# Altium integrated library Altera APEX 20KE.IntLib: 235 symbols (part 4 of 49)
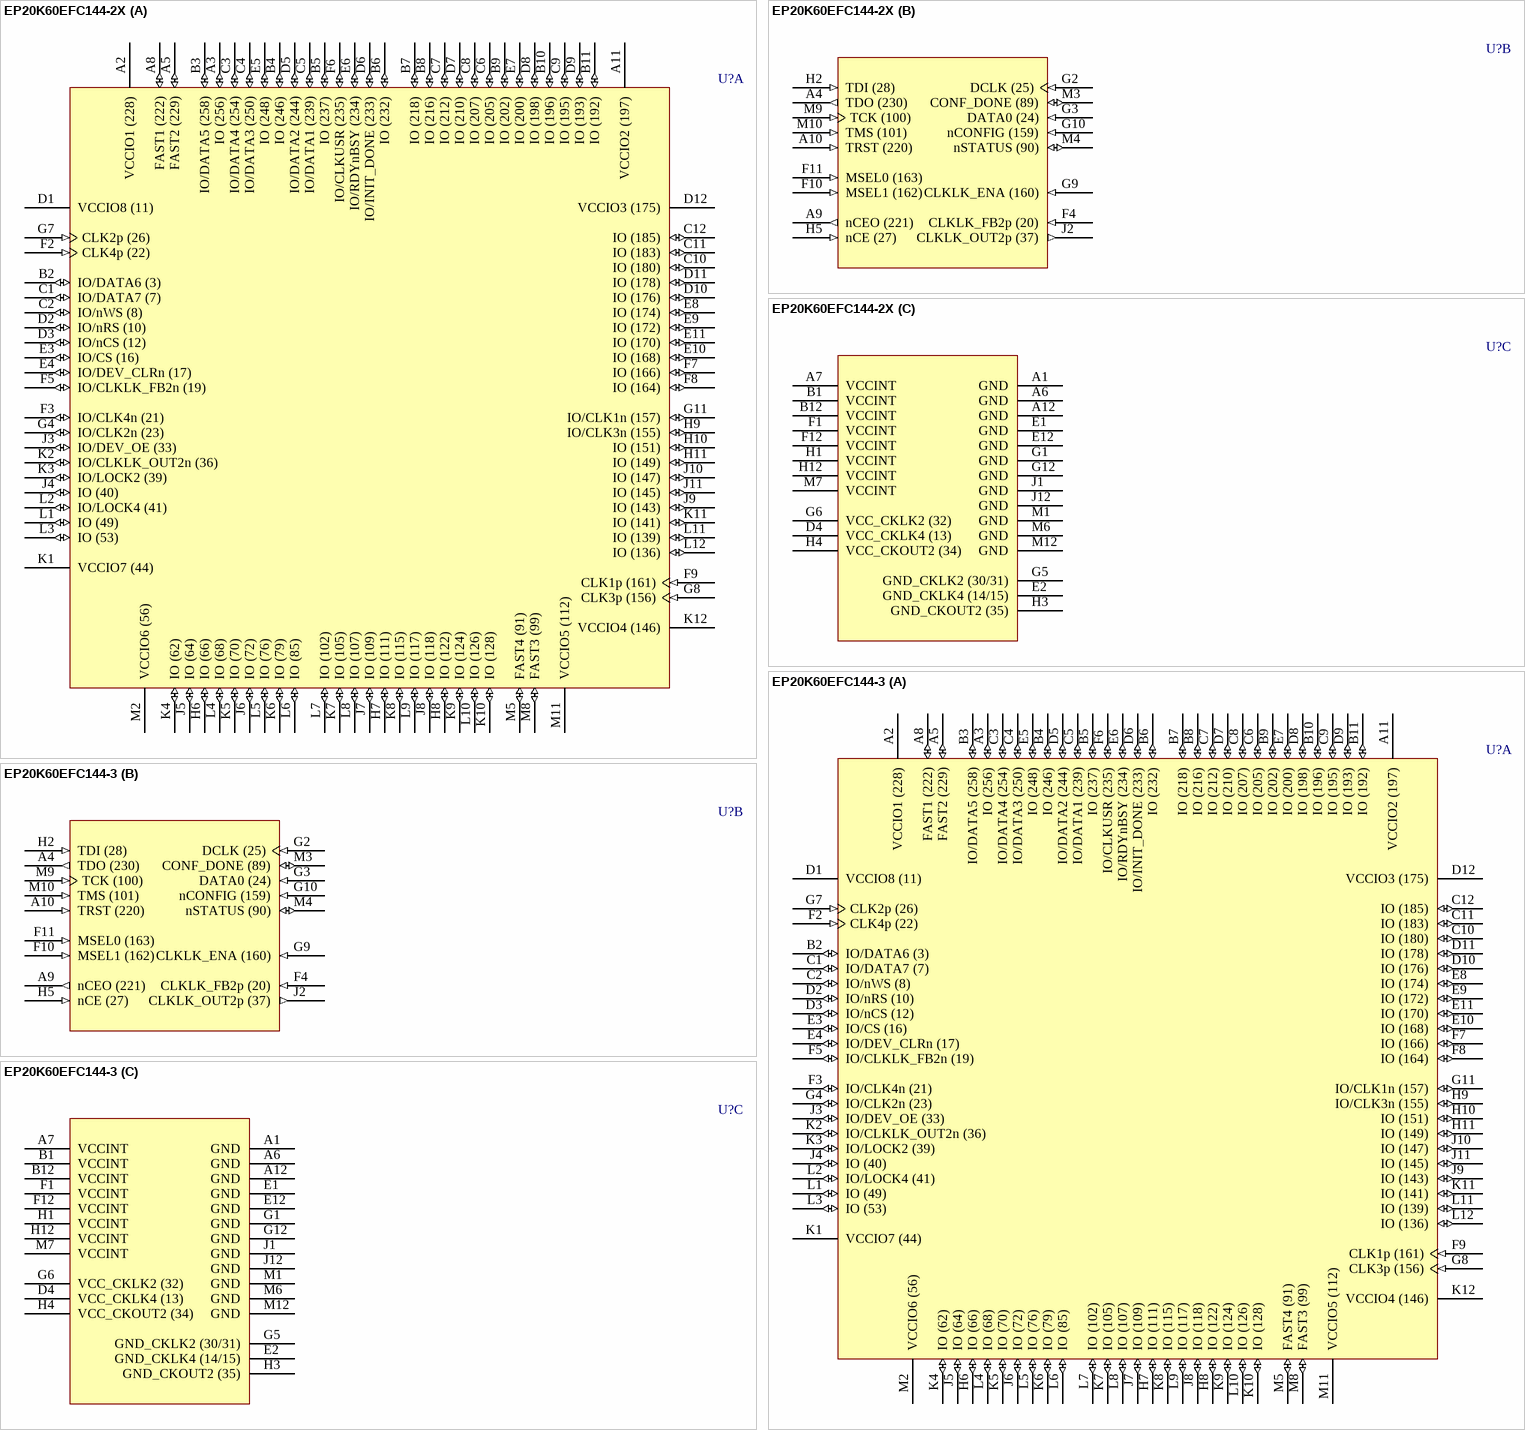
[diagram p402: symbols EP20K60EFC144-2X to EP20K60EFC144-3]

## EP20K60EFC144-2X
designator U?
APEX 20K60E PLD with PLLs and LVDS, 144-Pin FBGA, Commercial Grade, Speed Grade 2; Published: 17-Jul-2002; LatestRevisionDate: 13-Apr-2006; LatestRevisionNote: IPC-7351 Footprint Added.; DatasheetVersion: Mar-2004; PackageVersion: ver15.1, May-2008; PackageReference: FBGA144; Publisher: Altium Limited; PackageDescription: 144-Ball FineLine Ball Grid Array (FBGA144) - Wire Bond; Code_JEDEC: MO-192-AAD-1; Code_IPC: BGA100P12X12-144; ComponentLink1Description: Manufacturer Link; ComponentLink1URL: http://www.altera.com/products/devices/apex/apx-index.html; ComponentLink2Description: Datasheet; ComponentLink2URL: http://www.altera.com/literature/ds/apex.pdf
footprint FBGA144 (BGA, 144-Leads, Body 13x13mm, Pitch 1mm)
3D model EP20K60E-FBGA144 (144-Ball FineLine Ball Grid Array (FBGA144) - Wire Bond)
part A pins: A2 VCCIO1 (228) (power), A3 IO (256) (io), A5 FAST2 (229) (io), A8 FAST1 (222) (io), A11 VCCIO2 (197) (power), B2 IO/DATA6 (3) (io), B3 IO/DATA5 (258) (io), B4 IO (246) (io), B5 IO (237) (io), B6 IO (232) (io), B7 IO (218) (io), B8 IO (216) (io), B9 IO (202) (io), B10 IO (196) (io), B11 IO (192) (io), C1 IO/DATA7 (7) (io), C2 IO/nWS (8) (io), C3 IO/DATA4 (254) (io), C4 IO/DATA3 (250) (io), C5 IO/DATA1 (239) (io), C6 IO (205) (io), C7 IO (212) (io), C8 IO (207) (io), C9 IO (195) (io), C10 IO (180) (io), C11 IO (183) (io), C12 IO (185) (io), D1 VCCIO8 (11) (power), D2 IO/nRS (10) (io), D3 IO/nCS (12) (io), D5 IO/DATA2 (244) (io), D6 IO/INIT_DONE (233) (io), D7 IO (210) (io), D8 IO (198) (io), D9 IO (193) (io), D10 IO (176) (io), D11 IO (178) (io), D12 VCCIO3 (175) (power), E3 IO/CS (16) (io), E4 IO/DEV_CLRn (17) (io), E5 IO (248) (io), E6 IO/RDYnBSY (234) (io), E7 IO (200) (io), E8 IO (174) (io), E9 IO (172) (io), E10 IO (168) (io), E11 IO (170) (io), F2 CLK4p (22) (in), F3 IO/CLK4n (21) (io), F5 IO/CLKLK_FB2n (19) (io), F6 IO/CLKUSR (235) (io), F7 IO (166) (io), F8 IO (164) (io), F9 CLK1p (161) (in), G4 IO/CLK2n (23) (io), G7 CLK2p (26) (in), G8 CLK3p (156) (in), G11 IO/CLK1n (157) (io), H6 IO (66) (io), H7 IO (111) (io), H8 IO (122) (io), H9 IO/CLK3n (155) (io), H10 IO (151) (io), H11 IO (149) (io), J3 IO/DEV_OE (33) (io), J4 IO (40) (io), J5 IO (64) (io), J6 IO (72) (io), J7 IO (109) (io), J8 IO (118) (io), J9 IO (143) (io), J10 IO (147) (io), J11 IO (145) (io), K1 VCCIO7 (44) (power), K2 IO/CLKLK_OUT2n (36) (io), K3 IO/LOCK2 (39) (io), K4 IO (62) (io), K5 IO (70) (io), K6 IO (79) (io), K7 IO (105) (io), K8 IO (115) (io), K9 IO (124) (io), K10 IO (128) (io), K11 IO (141) (io), K12 VCCIO4 (146) (power), L1 IO (49) (io), L2 IO/LOCK4 (41) (io), L3 IO (53) (io), L4 IO (68) (io), L5 IO (76) (io), L6 IO (85) (io), L7 IO (102) (io), L8 IO (107) (io), L9 IO (117) (io), L10 IO (126) (io), L11 IO (139) (io), L12 IO (136) (io), M2 VCCIO6 (56) (power), M5 FAST4 (91) (io), M8 FAST3 (99) (io), M11 VCCIO5 (112) (power)
part B pins: A4 TDO (230) (out), A9 nCEO (221) (out), A10 TRST (220) (in), F4 CLKLK_FB2p (20) (in), F10 MSEL1 (162) (in), F11 MSEL0 (163) (in), G2 DCLK (25) (in), G3 DATA0 (24) (in), G9 CLKLK_ENA (160) (in), G10 nCONFIG (159) (in), H2 TDI (28) (in), H5 nCE (27) (in), J2 CLKLK_OUT2p (37) (out), M3 CONF_DONE (89) (io), M4 nSTATUS (90) (io), M9 TCK (100) (in), M10 TMS (101) (in)
part C pins: A1 GND (power), A6 GND (power), A7 VCCINT (power), A12 GND (power), B1 VCCINT (power), B12 VCCINT (power), D4 VCC_CKLK4 (13) (power), E1 GND (power), E2 GND_CKLK4 (14/15) (power), E12 GND (power), F1 VCCINT (power), F12 VCCINT (power), G1 GND (power), G5 GND_CKLK2 (30/31) (power), G6 VCC_CKLK2 (32) (power), G12 GND (power), H1 VCCINT (power), H3 GND_CKOUT2 (35) (power), H4 VCC_CKOUT2 (34) (power), H12 VCCINT (power), J1 GND (power), J12 GND (power), M1 GND (power), M6 GND (power), M7 VCCINT (power), M12 GND (power)

## EP20K60EFC144-3
designator U?
APEX 20K60E PLD, 144-Pin FBGA, Commercial Grade, Speed Grade 3; Published: 17-Jul-2002; LatestRevisionDate: 13-Apr-2006; LatestRevisionNote: IPC-7351 Footprint Added.; DatasheetVersion: Mar-2004; PackageVersion: ver15.1, May-2008; PackageReference: FBGA144; Publisher: Altium Limited; PackageDescription: 144-Ball FineLine Ball Grid Array (FBGA144) - Wire Bond; Supplier 1: Digi-Key; Supplier Part Number 1: EP20K60EFC144-3-ND; Code_JEDEC: MO-192-AAD-1; Code_IPC: BGA100P12X12-144; ComponentLink1Description: Manufacturer Link; ComponentLink1URL: http://www.altera.com/products/devices/apex/apx-index.html; ComponentLink2Description: Datasheet; ComponentLink2URL: http://www.altera.com/literature/ds/apex.pdf
footprint FBGA144 (BGA, 144-Leads, Body 13x13mm, Pitch 1mm)
3D model EP20K60E-FBGA144 (144-Ball FineLine Ball Grid Array (FBGA144) - Wire Bond)
part A pins: A2 VCCIO1 (228) (power), A3 IO (256) (io), A5 FAST2 (229) (io), A8 FAST1 (222) (io), A11 VCCIO2 (197) (power), B2 IO/DATA6 (3) (io), B3 IO/DATA5 (258) (io), B4 IO (246) (io), B5 IO (237) (io), B6 IO (232) (io), B7 IO (218) (io), B8 IO (216) (io), B9 IO (202) (io), B10 IO (196) (io), B11 IO (192) (io), C1 IO/DATA7 (7) (io), C2 IO/nWS (8) (io), C3 IO/DATA4 (254) (io), C4 IO/DATA3 (250) (io), C5 IO/DATA1 (239) (io), C6 IO (205) (io), C7 IO (212) (io), C8 IO (207) (io), C9 IO (195) (io), C10 IO (180) (io), C11 IO (183) (io), C12 IO (185) (io), D1 VCCIO8 (11) (power), D2 IO/nRS (10) (io), D3 IO/nCS (12) (io), D5 IO/DATA2 (244) (io), D6 IO/INIT_DONE (233) (io), D7 IO (210) (io), D8 IO (198) (io), D9 IO (193) (io), D10 IO (176) (io), D11 IO (178) (io), D12 VCCIO3 (175) (power), E3 IO/CS (16) (io), E4 IO/DEV_CLRn (17) (io), E5 IO (248) (io), E6 IO/RDYnBSY (234) (io), E7 IO (200) (io), E8 IO (174) (io), E9 IO (172) (io), E10 IO (168) (io), E11 IO (170) (io), F2 CLK4p (22) (in), F3 IO/CLK4n (21) (io), F5 IO/CLKLK_FB2n (19) (io), F6 IO/CLKUSR (235) (io), F7 IO (166) (io), F8 IO (164) (io), F9 CLK1p (161) (in), G4 IO/CLK2n (23) (io), G7 CLK2p (26) (in), G8 CLK3p (156) (in), G11 IO/CLK1n (157) (io), H6 IO (66) (io), H7 IO (111) (io), H8 IO (122) (io), H9 IO/CLK3n (155) (io), H10 IO (151) (io), H11 IO (149) (io), J3 IO/DEV_OE (33) (io), J4 IO (40) (io), J5 IO (64) (io), J6 IO (72) (io), J7 IO (109) (io), J8 IO (118) (io), J9 IO (143) (io), J10 IO (147) (io), J11 IO (145) (io), K1 VCCIO7 (44) (power), K2 IO/CLKLK_OUT2n (36) (io), K3 IO/LOCK2 (39) (io), K4 IO (62) (io), K5 IO (70) (io), K6 IO (79) (io), K7 IO (105) (io), K8 IO (115) (io), K9 IO (124) (io), K10 IO (128) (io), K11 IO (141) (io), K12 VCCIO4 (146) (power), L1 IO (49) (io), L2 IO/LOCK4 (41) (io), L3 IO (53) (io), L4 IO (68) (io), L5 IO (76) (io), L6 IO (85) (io), L7 IO (102) (io), L8 IO (107) (io), L9 IO (117) (io), L10 IO (126) (io), L11 IO (139) (io), L12 IO (136) (io), M2 VCCIO6 (56) (power), M5 FAST4 (91) (io), M8 FAST3 (99) (io), M11 VCCIO5 (112) (power)
part B pins: A4 TDO (230) (out), A9 nCEO (221) (out), A10 TRST (220) (in), F4 CLKLK_FB2p (20) (in), F10 MSEL1 (162) (in), F11 MSEL0 (163) (in), G2 DCLK (25) (in), G3 DATA0 (24) (in), G9 CLKLK_ENA (160) (in), G10 nCONFIG (159) (in), H2 TDI (28) (in), H5 nCE (27) (in), J2 CLKLK_OUT2p (37) (out), M3 CONF_DONE (89) (io), M4 nSTATUS (90) (io), M9 TCK (100) (in), M10 TMS (101) (in)
part C pins: A1 GND (power), A6 GND (power), A7 VCCINT (power), A12 GND (power), B1 VCCINT (power), B12 VCCINT (power), D4 VCC_CKLK4 (13) (power), E1 GND (power), E2 GND_CKLK4 (14/15) (power), E12 GND (power), F1 VCCINT (power), F12 VCCINT (power), G1 GND (power), G5 GND_CKLK2 (30/31) (power), G6 VCC_CKLK2 (32) (power), G12 GND (power), H1 VCCINT (power), H3 GND_CKOUT2 (35) (power), H4 VCC_CKOUT2 (34) (power), H12 VCCINT (power), J1 GND (power), J12 GND (power), M1 GND (power), M6 GND (power), M7 VCCINT (power), M12 GND (power)

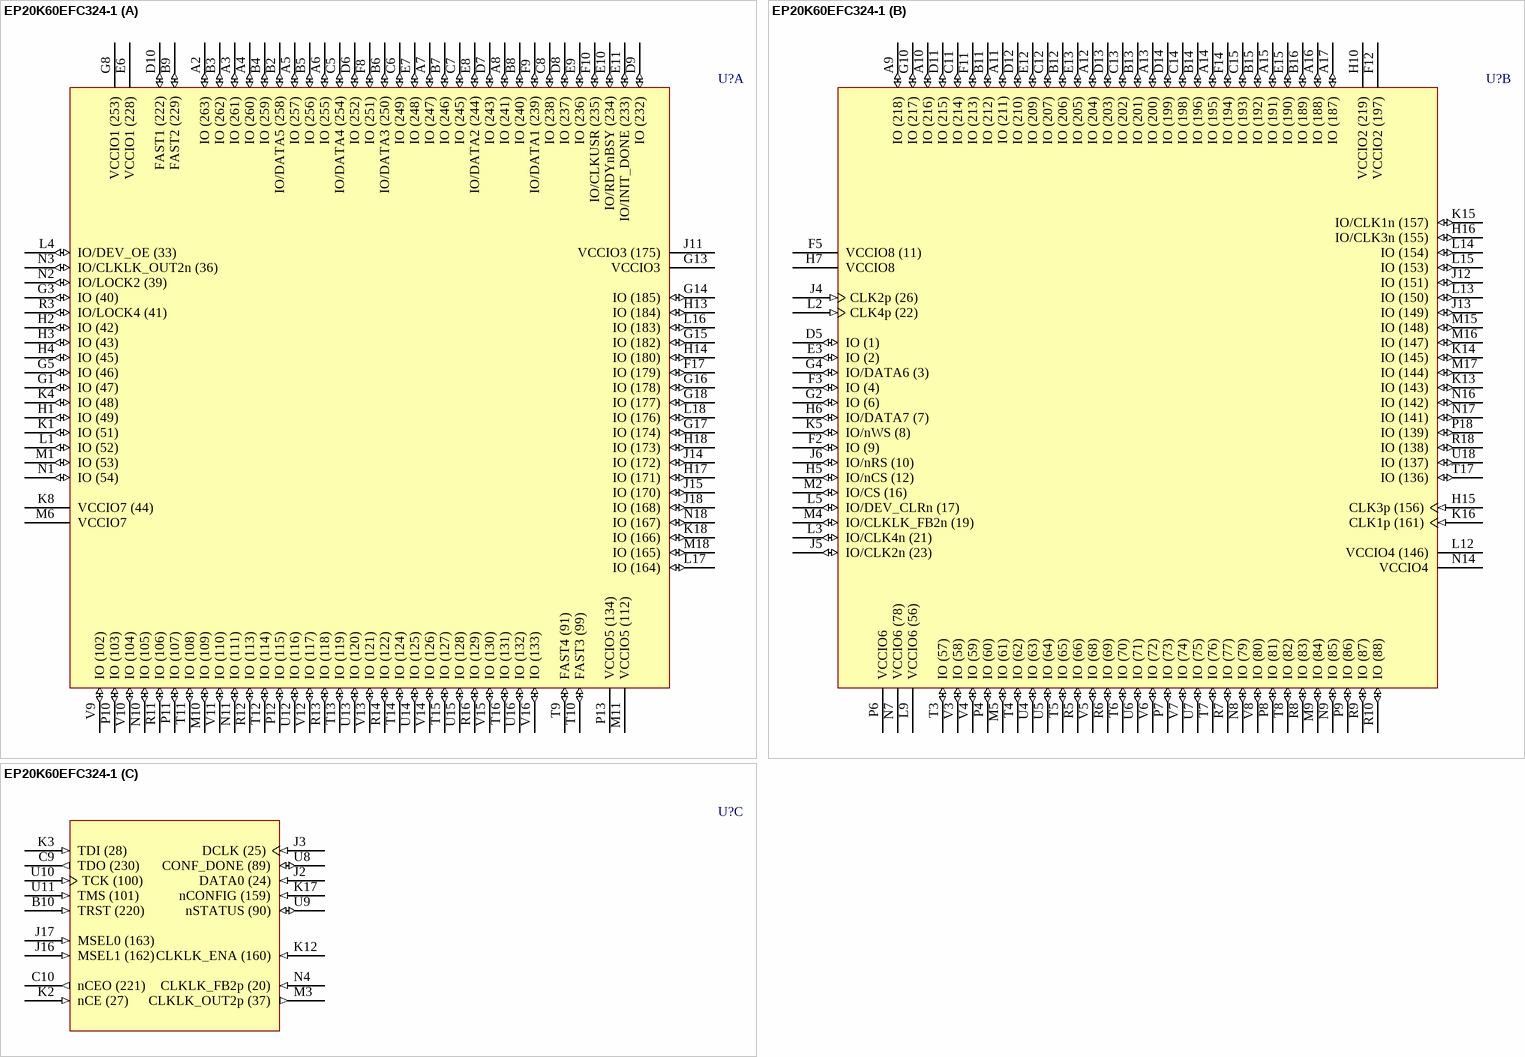
[diagram p34: symbol EP20K60EFC324-1]

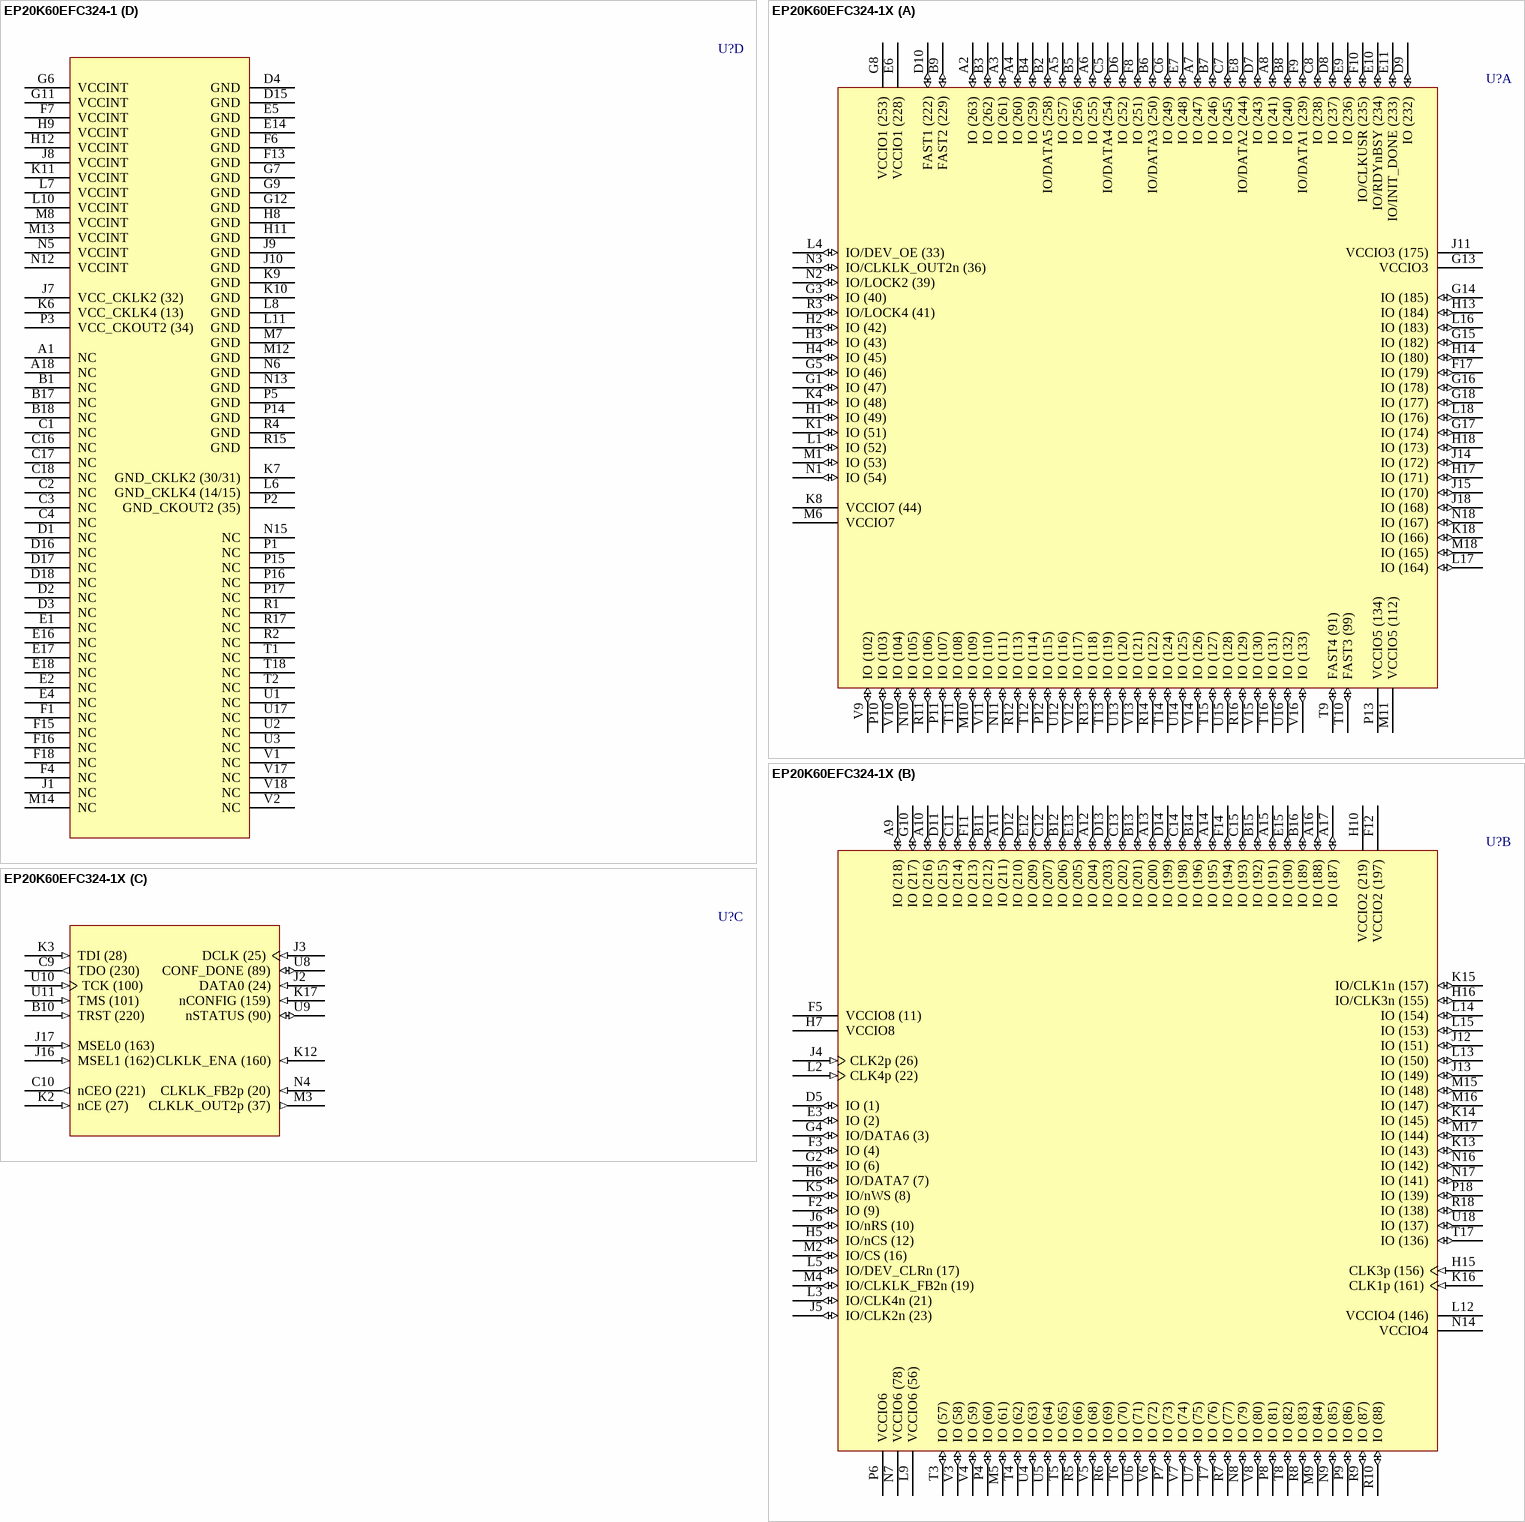
[diagram p35: symbols EP20K60EFC324-1 to EP20K60EFC324-1X]

## EP20K60EFC324-1
designator U?
APEX 20K60E PLD, 324-Pin FBGA, Commercial Grade, Speed Grade 1; Published: 17-Jul-2002; LatestRevisionDate: 13-Apr-2006; LatestRevisionNote: IPC-7351 Footprint Added.; DatasheetVersion: Mar-2004; PackageVersion: ver16.0, Dec-2009; PackageReference: FBGA324; Publisher: Altium Limited; PackageDescription: 324-Ball FineLine Ball Grid Array (FBGA324) - Wire Bond; Code_JEDEC: MS-034-AAG-1; Code_IPC: BGA100P18X18-324; ComponentLink1Description: Manufacturer Link; ComponentLink1URL: http://www.altera.com/products/devices/apex/apx-index.html; ComponentLink2Description: Datasheet; ComponentLink2URL: http://www.altera.com/literature/ds/apex.pdf
footprint FBGA324 (BGA, 324-Leads, Body 19x19mm, Pitch 1mm)
3D model EP20K60E-FBGA324 (324-Ball FineLine Ball Grid Array (FBGA324) - Wire Bond)
part A pins: A2 IO (263) (io), A3 IO (261) (io), A4 IO (260) (io), A5 IO (257) (io), A6 IO (255) (io), A7 IO (247) (io), A8 IO (241) (io), B2 IO/DATA5 (258) (io), B3 IO (262) (io), B4 IO (259) (io), B5 IO (256) (io), B6 IO/DATA3 (250) (io), B7 IO (246) (io), B8 IO (240) (io), B9 FAST2 (229) (io), C5 IO/DATA4 (254) (io), C6 IO (249) (io), C7 IO (245) (io), C8 IO (238) (io), D6 IO (252) (io), D7 IO (243) (io), D8 IO (237) (io), D9 IO (232) (io), D10 FAST1 (222) (io), E6 VCCIO1 (228) (power), E7 IO (248) (io), E8 IO/DATA2 (244) (io), E9 IO (236) (io), E10 IO/RDYnBSY (234) (io), E11 IO/INIT_DONE (233) (io), F8 IO (251) (io), F9 IO/DATA1 (239) (io), F10 IO/CLKUSR (235) (io), F17 IO (179) (io), G1 IO (47) (io), G3 IO (40) (io), G5 IO (46) (io), G8 VCCIO1 (253) (power), G13 VCCIO3 (power), G14 IO (185) (io), G15 IO (182) (io), G16 IO (178) (io), G17 IO (174) (io), G18 IO (177) (io), H1 IO (49) (io), H2 IO (42) (io), H3 IO (43) (io), H4 IO (45) (io), H13 IO (184) (io), H14 IO (180) (io), H17 IO (171) (io), H18 IO (173) (io), J11 VCCIO3 (175) (power), J14 IO (172) (io), J15 IO (170) (io), J18 IO (168) (io), K1 IO (51) (io), K4 IO (48) (io), K8 VCCIO7 (44) (power), K18 IO (166) (io), L1 IO (52) (io), L4 IO/DEV_OE (33) (io), L16 IO (183) (io), L17 IO (164) (io), L18 IO (176) (io), M1 IO (53) (io), M6 VCCIO7 (power), M10 IO (109) (io), M11 VCCIO5 (112) (power), M18 IO (165) (io), N1 IO (54) (io), N2 IO/LOCK2 (39) (io), N3 IO/CLKLK_OUT2n (36) (io), N10 IO (105) (io), N11 IO (111) (io), N18 IO (167) (io), P10 IO (103) (io), P11 IO (107) (io), P12 IO (115) (io), P13 VCCIO5 (134) (power), R3 IO/LOCK4 (41) (io), R11 IO (106) (io), R12 IO (113) (io), R13 IO (118) (io), R14 IO (122) (io), R16 IO (129) (io), T9 FAST4 (91) (io), T10 FAST3 (99) (io), T11 IO (108) (io), T12 IO (114) (io), T13 IO (119) (io), T14 IO (124) (io), T15 IO (127) (io), T16 IO (131) (io), U12 IO (116) (io), U13 IO (120) (io), U14 IO (125) (io), U15 IO (128) (io), U16 IO (132) (io), V9 IO (102) (io), V10 IO (104) (io), V11 IO (110) (io), V12 IO (117) (io), V13 IO (121) (io), V14 IO (126) (io), V15 IO (130) (io), V16 IO (133) (io)
part B pins: A9 IO (218) (io), A10 IO (216) (io), A11 IO (211) (io), A12 IO (204) (io), A13 IO (200) (io), A14 IO (195) (io), A15 IO (191) (io), A16 IO (188) (io), A17 IO (187) (io), B11 IO (212) (io), B12 IO (206) (io), B13 IO (201) (io), B14 IO (196) (io), B15 IO (192) (io), B16 IO (189) (io), C11 IO (214) (io), C12 IO (207) (io), C13 IO (202) (io), C14 IO (198) (io), C15 IO (193) (io), D5 IO (1) (io), D11 IO (215) (io), D12 IO (210) (io), D13 IO (203) (io), D14 IO (199) (io), E3 IO (2) (io), E12 IO (209) (io), E13 IO (205) (io), E15 IO (190) (io), F2 IO (9) (io), F3 IO (4) (io), F5 VCCIO8 (11) (power), F11 IO (213) (io), F12 VCCIO2 (197) (power), F14 IO (194) (io), G2 IO (6) (io), G4 IO/DATA6 (3) (io), G10 IO (217) (io), H5 IO/nCS (12) (io), H6 IO/DATA7 (7) (io), H7 VCCIO8 (power), H10 VCCIO2 (219) (power), H15 CLK3p (156) (in), H16 IO/CLK3n (155) (io), J4 CLK2p (26) (in), J5 IO/CLK2n (23) (io), J6 IO/nRS (10) (io), J12 IO (151) (io), J13 IO (149) (io), K5 IO/nWS (8) (io), K13 IO (143) (io), K14 IO (145) (io), K15 IO/CLK1n (157) (io), K16 CLK1p (161) (in), L2 CLK4p (22) (in), L3 IO/CLK4n (21) (io), L5 IO/DEV_CLRn (17) (io), L9 VCCIO6 (56) (power), L12 VCCIO4 (146) (power), L13 IO (150) (io), L14 IO (154) (io), L15 IO (153) (io), M2 IO/CS (16) (io), M4 IO/CLKLK_FB2n (19) (io), M5 IO (61) (io), M9 IO (84) (io), M15 IO (148) (io), M16 IO (147) (io), M17 IO (144) (io), N7 VCCIO6 (78) (power), N8 IO (79) (io), N9 IO (85) (io), N14 VCCIO4 (power), N16 IO (142) (io), N17 IO (141) (io), P4 IO (60) (io), P6 VCCIO6 (power), P7 IO (73) (io), P8 IO (81) (io), P9 IO (86) (io), P18 IO (139) (io), R5 IO (66) (io), R6 IO (69) (io), R7 IO (77) (io), R8 IO (83) (io), R9 IO (87) (io), R10 IO (88) (io), R18 IO (138) (io), T3 IO (57) (io), T4 IO (62) (io), T5 IO (65) (io), T6 IO (70) (io), T7 IO (76) (io), T8 IO (82) (io), T17 IO (136) (io), U4 IO (63) (io), U5 IO (64) (io), U6 IO (71) (io), U7 IO (75) (io), U18 IO (137) (io), V3 IO (58) (io), V4 IO (59) (io), V5 IO (68) (io), V6 IO (72) (io), V7 IO (74) (io), V8 IO (80) (io)
part C pins: B10 TRST (220) (in), C9 TDO (230) (out), C10 nCEO (221) (out), J2 DATA0 (24) (in), J3 DCLK (25) (in), J16 MSEL1 (162) (in), J17 MSEL0 (163) (in), K2 nCE (27) (in), K3 TDI (28) (in), K12 CLKLK_ENA (160) (in), K17 nCONFIG (159) (in), M3 CLKLK_OUT2p (37) (out), N4 CLKLK_FB2p (20) (in), U8 CONF_DONE (89) (io), U9 nSTATUS (90) (io), U10 TCK (100) (in), U11 TMS (101) (in)
part D pins: A1 NC, A18 NC, B1 NC, B17 NC, B18 NC, C1 NC, C2 NC, C3 NC, C4 NC, C16 NC, C17 NC, C18 NC, D1 NC, D2 NC, D3 NC, D4 GND (power), D15 GND (power), D16 NC, D17 NC, D18 NC, E1 NC, E2 NC, E4 NC, E5 GND (power), E14 GND (power), E16 NC, E17 NC, E18 NC, F1 NC, F4 NC, F6 GND (power), F7 VCCINT (power), F13 GND (power), F15 NC, F16 NC, F18 NC, G6 VCCINT (power), G7 GND (power), G9 GND (power), G11 VCCINT (power), G12 GND (power), H8 GND (power), H9 VCCINT (power), H11 GND (power), H12 VCCINT (power), J1 NC, J7 VCC_CKLK2 (32) (power), J8 VCCINT (power), J9 GND (power), J10 GND (power), K6 VCC_CKLK4 (13) (power), K7 GND_CKLK2 (30/31) (power), K9 GND (power), K10 GND (power), K11 VCCINT (power), L6 GND_CKLK4 (14/15) (power), L7 VCCINT (power), L8 GND (power), L10 VCCINT (power), L11 GND (power), M7 GND (power), M8 VCCINT (power), M12 GND (power), M13 VCCINT (power), M14 NC, N5 VCCINT (power), N6 GND (power), N12 VCCINT (power), N13 GND (power), N15 NC, P1 NC, P2 GND_CKOUT2 (35) (power), P3 VCC_CKOUT2 (34) (power), P5 GND (power), P14 GND (power), P15 NC, P16 NC, P17 NC, R1 NC, R2 NC, R4 GND (power), R15 GND (power), R17 NC, T1 NC, T2 NC, T18 NC, U1 NC, U2 NC, U3 NC, U17 NC, V1 NC, V2 NC, V17 NC, V18 NC

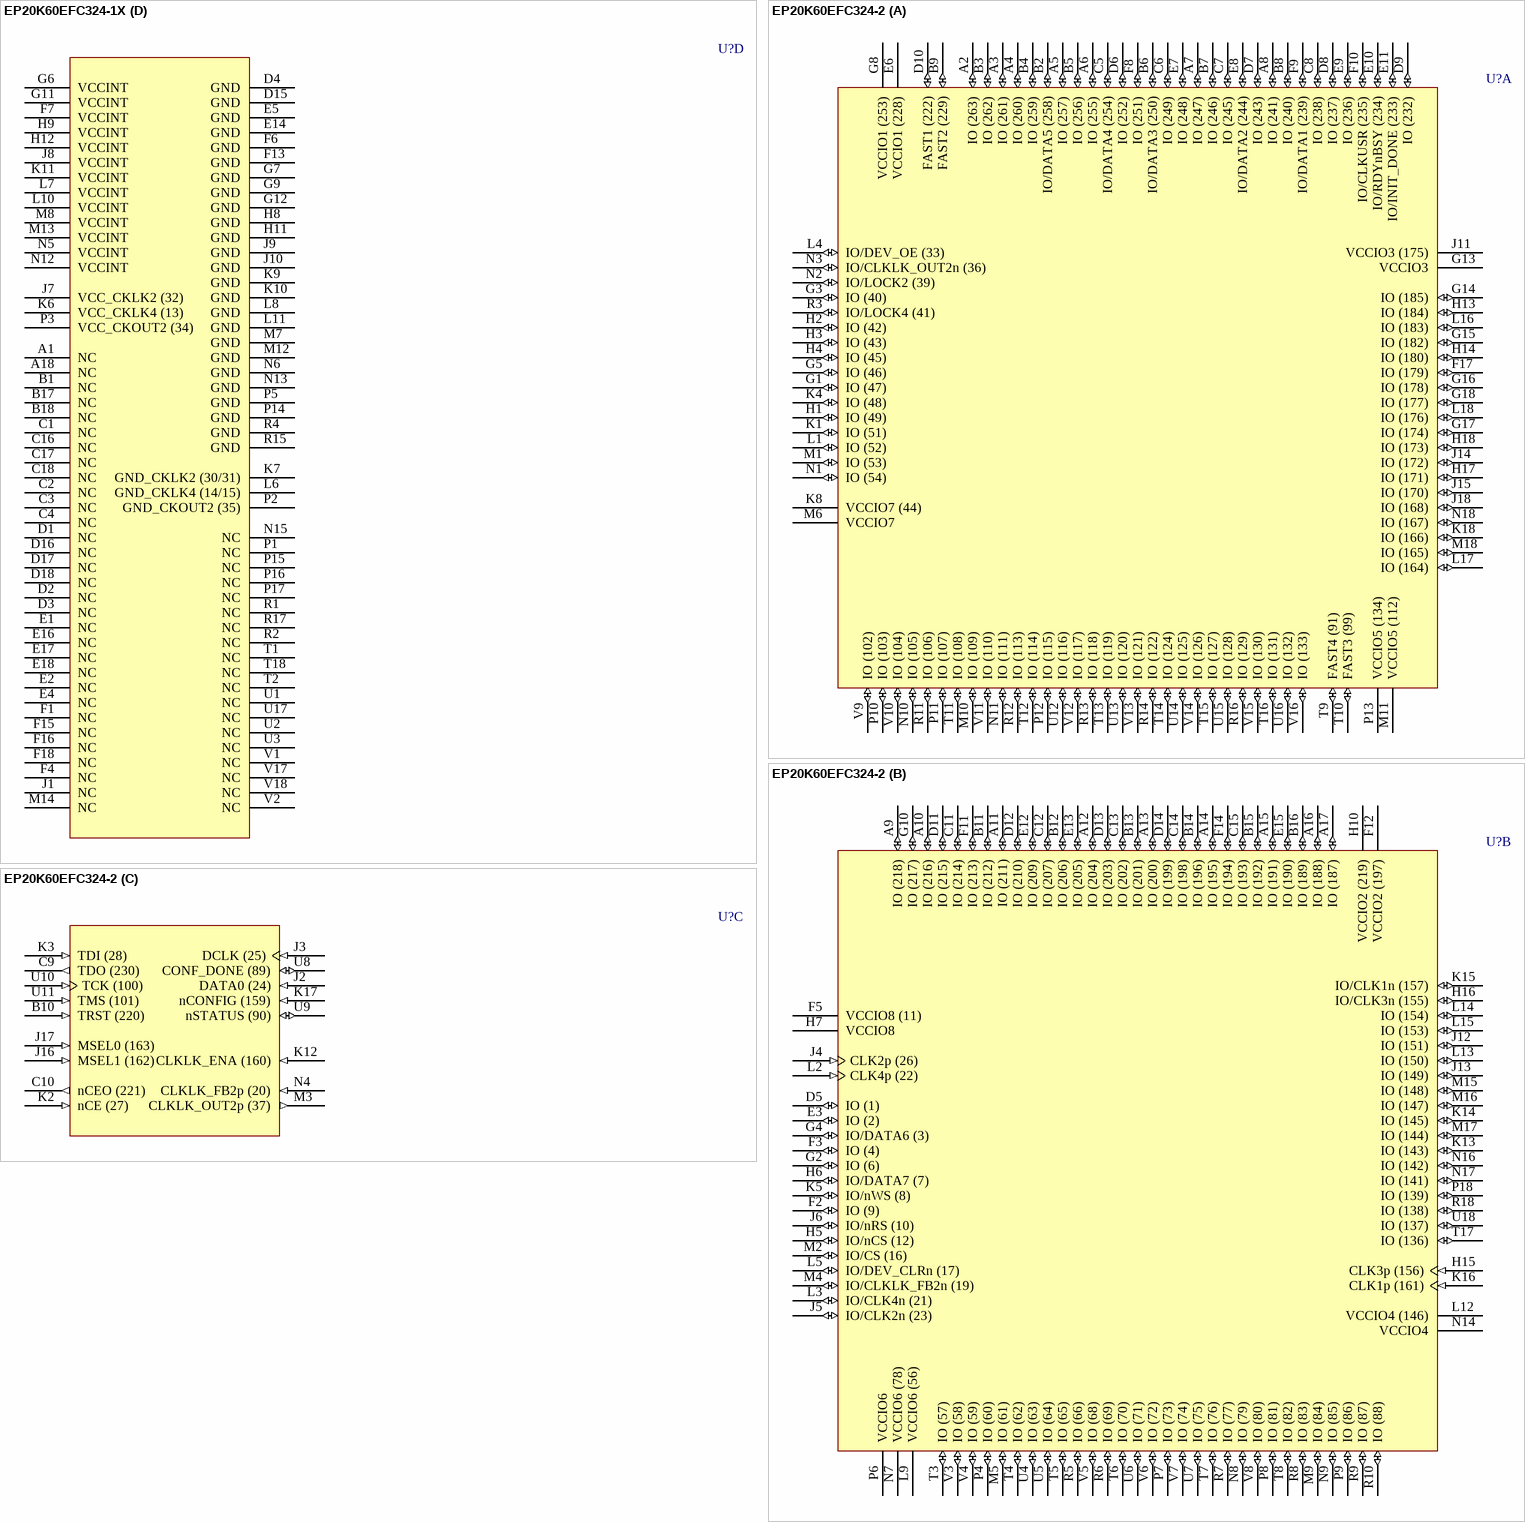
[diagram p36: symbols EP20K60EFC324-1X to EP20K60EFC324-2]

## EP20K60EFC324-1X
designator U?
APEX 20K60E PLD with PLLs and LVDS, 324-Pin FBGA, Commercial Grade, Speed Grade 1; Published: 17-Jul-2002; LatestRevisionDate: 13-Apr-2006; LatestRevisionNote: IPC-7351 Footprint Added.; DatasheetVersion: Mar-2004; PackageVersion: ver16.0, Dec-2009; PackageReference: FBGA324; Publisher: Altium Limited; PackageDescription: 324-Ball FineLine Ball Grid Array (FBGA324) - Wire Bond; Code_JEDEC: MS-034-AAG-1; Code_IPC: BGA100P18X18-324; ComponentLink1Description: Manufacturer Link; ComponentLink1URL: http://www.altera.com/products/devices/apex/apx-index.html; ComponentLink2Description: Datasheet; ComponentLink2URL: http://www.altera.com/literature/ds/apex.pdf
footprint FBGA324 (BGA, 324-Leads, Body 19x19mm, Pitch 1mm)
3D model EP20K60E-FBGA324 (324-Ball FineLine Ball Grid Array (FBGA324) - Wire Bond)
part A pins: A2 IO (263) (io), A3 IO (261) (io), A4 IO (260) (io), A5 IO (257) (io), A6 IO (255) (io), A7 IO (247) (io), A8 IO (241) (io), B2 IO/DATA5 (258) (io), B3 IO (262) (io), B4 IO (259) (io), B5 IO (256) (io), B6 IO/DATA3 (250) (io), B7 IO (246) (io), B8 IO (240) (io), B9 FAST2 (229) (io), C5 IO/DATA4 (254) (io), C6 IO (249) (io), C7 IO (245) (io), C8 IO (238) (io), D6 IO (252) (io), D7 IO (243) (io), D8 IO (237) (io), D9 IO (232) (io), D10 FAST1 (222) (io), E6 VCCIO1 (228) (power), E7 IO (248) (io), E8 IO/DATA2 (244) (io), E9 IO (236) (io), E10 IO/RDYnBSY (234) (io), E11 IO/INIT_DONE (233) (io), F8 IO (251) (io), F9 IO/DATA1 (239) (io), F10 IO/CLKUSR (235) (io), F17 IO (179) (io), G1 IO (47) (io), G3 IO (40) (io), G5 IO (46) (io), G8 VCCIO1 (253) (power), G13 VCCIO3 (power), G14 IO (185) (io), G15 IO (182) (io), G16 IO (178) (io), G17 IO (174) (io), G18 IO (177) (io), H1 IO (49) (io), H2 IO (42) (io), H3 IO (43) (io), H4 IO (45) (io), H13 IO (184) (io), H14 IO (180) (io), H17 IO (171) (io), H18 IO (173) (io), J11 VCCIO3 (175) (power), J14 IO (172) (io), J15 IO (170) (io), J18 IO (168) (io), K1 IO (51) (io), K4 IO (48) (io), K8 VCCIO7 (44) (power), K18 IO (166) (io), L1 IO (52) (io), L4 IO/DEV_OE (33) (io), L16 IO (183) (io), L17 IO (164) (io), L18 IO (176) (io), M1 IO (53) (io), M6 VCCIO7 (power), M10 IO (109) (io), M11 VCCIO5 (112) (power), M18 IO (165) (io), N1 IO (54) (io), N2 IO/LOCK2 (39) (io), N3 IO/CLKLK_OUT2n (36) (io), N10 IO (105) (io), N11 IO (111) (io), N18 IO (167) (io), P10 IO (103) (io), P11 IO (107) (io), P12 IO (115) (io), P13 VCCIO5 (134) (power), R3 IO/LOCK4 (41) (io), R11 IO (106) (io), R12 IO (113) (io), R13 IO (118) (io), R14 IO (122) (io), R16 IO (129) (io), T9 FAST4 (91) (io), T10 FAST3 (99) (io), T11 IO (108) (io), T12 IO (114) (io), T13 IO (119) (io), T14 IO (124) (io), T15 IO (127) (io), T16 IO (131) (io), U12 IO (116) (io), U13 IO (120) (io), U14 IO (125) (io), U15 IO (128) (io), U16 IO (132) (io), V9 IO (102) (io), V10 IO (104) (io), V11 IO (110) (io), V12 IO (117) (io), V13 IO (121) (io), V14 IO (126) (io), V15 IO (130) (io), V16 IO (133) (io)
part B pins: A9 IO (218) (io), A10 IO (216) (io), A11 IO (211) (io), A12 IO (204) (io), A13 IO (200) (io), A14 IO (195) (io), A15 IO (191) (io), A16 IO (188) (io), A17 IO (187) (io), B11 IO (212) (io), B12 IO (206) (io), B13 IO (201) (io), B14 IO (196) (io), B15 IO (192) (io), B16 IO (189) (io), C11 IO (214) (io), C12 IO (207) (io), C13 IO (202) (io), C14 IO (198) (io), C15 IO (193) (io), D5 IO (1) (io), D11 IO (215) (io), D12 IO (210) (io), D13 IO (203) (io), D14 IO (199) (io), E3 IO (2) (io), E12 IO (209) (io), E13 IO (205) (io), E15 IO (190) (io), F2 IO (9) (io), F3 IO (4) (io), F5 VCCIO8 (11) (power), F11 IO (213) (io), F12 VCCIO2 (197) (power), F14 IO (194) (io), G2 IO (6) (io), G4 IO/DATA6 (3) (io), G10 IO (217) (io), H5 IO/nCS (12) (io), H6 IO/DATA7 (7) (io), H7 VCCIO8 (power), H10 VCCIO2 (219) (power), H15 CLK3p (156) (in), H16 IO/CLK3n (155) (io), J4 CLK2p (26) (in), J5 IO/CLK2n (23) (io), J6 IO/nRS (10) (io), J12 IO (151) (io), J13 IO (149) (io), K5 IO/nWS (8) (io), K13 IO (143) (io), K14 IO (145) (io), K15 IO/CLK1n (157) (io), K16 CLK1p (161) (in), L2 CLK4p (22) (in), L3 IO/CLK4n (21) (io), L5 IO/DEV_CLRn (17) (io), L9 VCCIO6 (56) (power), L12 VCCIO4 (146) (power), L13 IO (150) (io), L14 IO (154) (io), L15 IO (153) (io), M2 IO/CS (16) (io), M4 IO/CLKLK_FB2n (19) (io), M5 IO (61) (io), M9 IO (84) (io), M15 IO (148) (io), M16 IO (147) (io), M17 IO (144) (io), N7 VCCIO6 (78) (power), N8 IO (79) (io), N9 IO (85) (io), N14 VCCIO4 (power), N16 IO (142) (io), N17 IO (141) (io), P4 IO (60) (io), P6 VCCIO6 (power), P7 IO (73) (io), P8 IO (81) (io), P9 IO (86) (io), P18 IO (139) (io), R5 IO (66) (io), R6 IO (69) (io), R7 IO (77) (io), R8 IO (83) (io), R9 IO (87) (io), R10 IO (88) (io), R18 IO (138) (io), T3 IO (57) (io), T4 IO (62) (io), T5 IO (65) (io), T6 IO (70) (io), T7 IO (76) (io), T8 IO (82) (io), T17 IO (136) (io), U4 IO (63) (io), U5 IO (64) (io), U6 IO (71) (io), U7 IO (75) (io), U18 IO (137) (io), V3 IO (58) (io), V4 IO (59) (io), V5 IO (68) (io), V6 IO (72) (io), V7 IO (74) (io), V8 IO (80) (io)
part C pins: B10 TRST (220) (in), C9 TDO (230) (out), C10 nCEO (221) (out), J2 DATA0 (24) (in), J3 DCLK (25) (in), J16 MSEL1 (162) (in), J17 MSEL0 (163) (in), K2 nCE (27) (in), K3 TDI (28) (in), K12 CLKLK_ENA (160) (in), K17 nCONFIG (159) (in), M3 CLKLK_OUT2p (37) (out), N4 CLKLK_FB2p (20) (in), U8 CONF_DONE (89) (io), U9 nSTATUS (90) (io), U10 TCK (100) (in), U11 TMS (101) (in)
part D pins: A1 NC, A18 NC, B1 NC, B17 NC, B18 NC, C1 NC, C2 NC, C3 NC, C4 NC, C16 NC, C17 NC, C18 NC, D1 NC, D2 NC, D3 NC, D4 GND (power), D15 GND (power), D16 NC, D17 NC, D18 NC, E1 NC, E2 NC, E4 NC, E5 GND (power), E14 GND (power), E16 NC, E17 NC, E18 NC, F1 NC, F4 NC, F6 GND (power), F7 VCCINT (power), F13 GND (power), F15 NC, F16 NC, F18 NC, G6 VCCINT (power), G7 GND (power), G9 GND (power), G11 VCCINT (power), G12 GND (power), H8 GND (power), H9 VCCINT (power), H11 GND (power), H12 VCCINT (power), J1 NC, J7 VCC_CKLK2 (32) (power), J8 VCCINT (power), J9 GND (power), J10 GND (power), K6 VCC_CKLK4 (13) (power), K7 GND_CKLK2 (30/31) (power), K9 GND (power), K10 GND (power), K11 VCCINT (power), L6 GND_CKLK4 (14/15) (power), L7 VCCINT (power), L8 GND (power), L10 VCCINT (power), L11 GND (power), M7 GND (power), M8 VCCINT (power), M12 GND (power), M13 VCCINT (power), M14 NC, N5 VCCINT (power), N6 GND (power), N12 VCCINT (power), N13 GND (power), N15 NC, P1 NC, P2 GND_CKOUT2 (35) (power), P3 VCC_CKOUT2 (34) (power), P5 GND (power), P14 GND (power), P15 NC, P16 NC, P17 NC, R1 NC, R2 NC, R4 GND (power), R15 GND (power), R17 NC, T1 NC, T2 NC, T18 NC, U1 NC, U2 NC, U3 NC, U17 NC, V1 NC, V2 NC, V17 NC, V18 NC

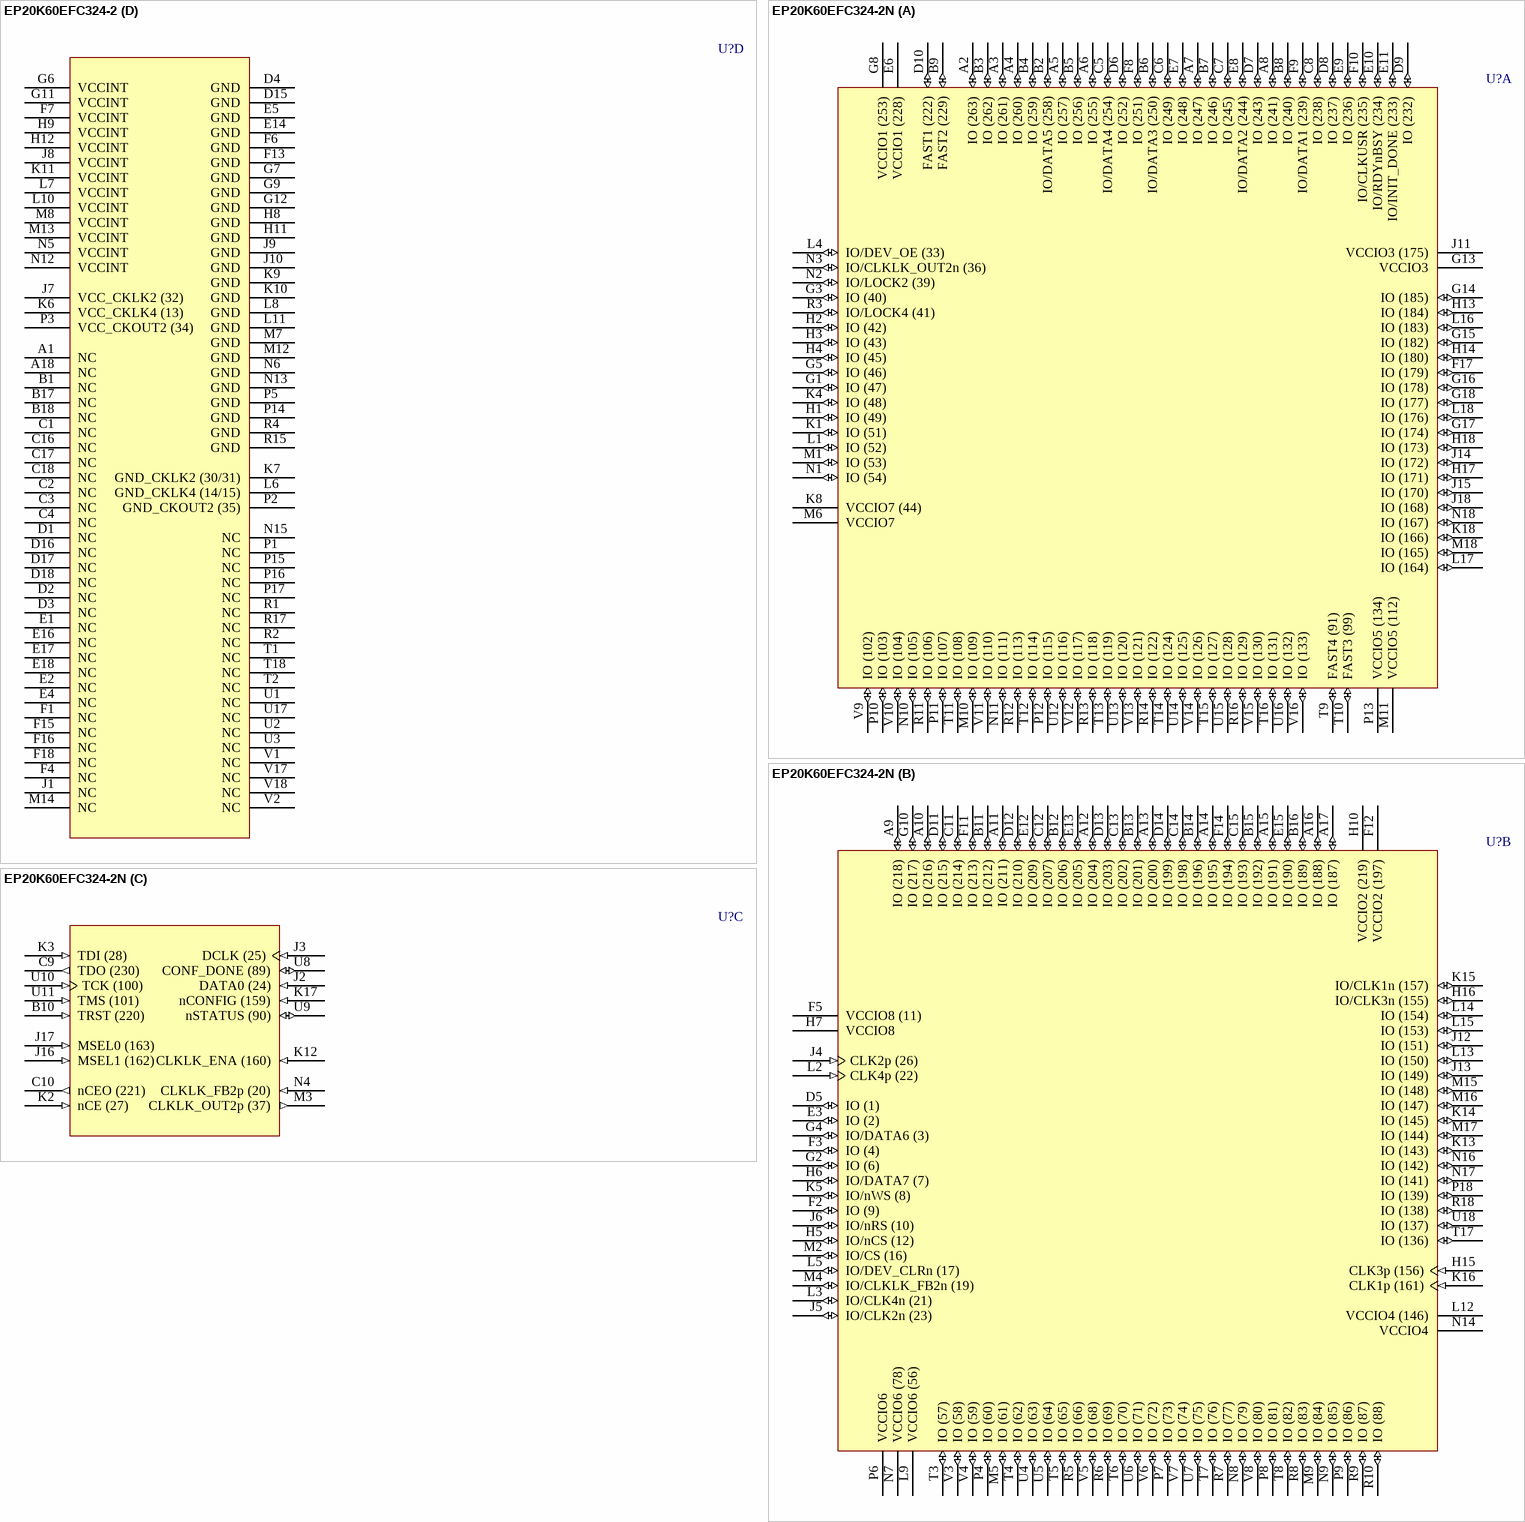
[diagram p37: symbols EP20K60EFC324-2 to EP20K60EFC324-2N]

## EP20K60EFC324-2
designator U?
APEX 20K60E PLD, 324-Pin FBGA, Commercial Grade, Speed Grade 2; Published: 17-Jul-2002; LatestRevisionDate: 13-Apr-2006; LatestRevisionNote: IPC-7351 Footprint Added.; DatasheetVersion: Mar-2004; PackageVersion: ver16.0, Dec-2009; PackageReference: FBGA324; Publisher: Altium Limited; PackageDescription: 324-Ball FineLine Ball Grid Array (FBGA324) - Wire Bond; Code_JEDEC: MS-034-AAG-1; Code_IPC: BGA100P18X18-324; ComponentLink1Description: Manufacturer Link; ComponentLink1URL: http://www.altera.com/products/devices/apex/apx-index.html; ComponentLink2Description: Datasheet; ComponentLink2URL: http://www.altera.com/literature/ds/apex.pdf
footprint FBGA324 (BGA, 324-Leads, Body 19x19mm, Pitch 1mm)
3D model EP20K60E-FBGA324 (324-Ball FineLine Ball Grid Array (FBGA324) - Wire Bond)
part A pins: A2 IO (263) (io), A3 IO (261) (io), A4 IO (260) (io), A5 IO (257) (io), A6 IO (255) (io), A7 IO (247) (io), A8 IO (241) (io), B2 IO/DATA5 (258) (io), B3 IO (262) (io), B4 IO (259) (io), B5 IO (256) (io), B6 IO/DATA3 (250) (io), B7 IO (246) (io), B8 IO (240) (io), B9 FAST2 (229) (io), C5 IO/DATA4 (254) (io), C6 IO (249) (io), C7 IO (245) (io), C8 IO (238) (io), D6 IO (252) (io), D7 IO (243) (io), D8 IO (237) (io), D9 IO (232) (io), D10 FAST1 (222) (io), E6 VCCIO1 (228) (power), E7 IO (248) (io), E8 IO/DATA2 (244) (io), E9 IO (236) (io), E10 IO/RDYnBSY (234) (io), E11 IO/INIT_DONE (233) (io), F8 IO (251) (io), F9 IO/DATA1 (239) (io), F10 IO/CLKUSR (235) (io), F17 IO (179) (io), G1 IO (47) (io), G3 IO (40) (io), G5 IO (46) (io), G8 VCCIO1 (253) (power), G13 VCCIO3 (power), G14 IO (185) (io), G15 IO (182) (io), G16 IO (178) (io), G17 IO (174) (io), G18 IO (177) (io), H1 IO (49) (io), H2 IO (42) (io), H3 IO (43) (io), H4 IO (45) (io), H13 IO (184) (io), H14 IO (180) (io), H17 IO (171) (io), H18 IO (173) (io), J11 VCCIO3 (175) (power), J14 IO (172) (io), J15 IO (170) (io), J18 IO (168) (io), K1 IO (51) (io), K4 IO (48) (io), K8 VCCIO7 (44) (power), K18 IO (166) (io), L1 IO (52) (io), L4 IO/DEV_OE (33) (io), L16 IO (183) (io), L17 IO (164) (io), L18 IO (176) (io), M1 IO (53) (io), M6 VCCIO7 (power), M10 IO (109) (io), M11 VCCIO5 (112) (power), M18 IO (165) (io), N1 IO (54) (io), N2 IO/LOCK2 (39) (io), N3 IO/CLKLK_OUT2n (36) (io), N10 IO (105) (io), N11 IO (111) (io), N18 IO (167) (io), P10 IO (103) (io), P11 IO (107) (io), P12 IO (115) (io), P13 VCCIO5 (134) (power), R3 IO/LOCK4 (41) (io), R11 IO (106) (io), R12 IO (113) (io), R13 IO (118) (io), R14 IO (122) (io), R16 IO (129) (io), T9 FAST4 (91) (io), T10 FAST3 (99) (io), T11 IO (108) (io), T12 IO (114) (io), T13 IO (119) (io), T14 IO (124) (io), T15 IO (127) (io), T16 IO (131) (io), U12 IO (116) (io), U13 IO (120) (io), U14 IO (125) (io), U15 IO (128) (io), U16 IO (132) (io), V9 IO (102) (io), V10 IO (104) (io), V11 IO (110) (io), V12 IO (117) (io), V13 IO (121) (io), V14 IO (126) (io), V15 IO (130) (io), V16 IO (133) (io)
part B pins: A9 IO (218) (io), A10 IO (216) (io), A11 IO (211) (io), A12 IO (204) (io), A13 IO (200) (io), A14 IO (195) (io), A15 IO (191) (io), A16 IO (188) (io), A17 IO (187) (io), B11 IO (212) (io), B12 IO (206) (io), B13 IO (201) (io), B14 IO (196) (io), B15 IO (192) (io), B16 IO (189) (io), C11 IO (214) (io), C12 IO (207) (io), C13 IO (202) (io), C14 IO (198) (io), C15 IO (193) (io), D5 IO (1) (io), D11 IO (215) (io), D12 IO (210) (io), D13 IO (203) (io), D14 IO (199) (io), E3 IO (2) (io), E12 IO (209) (io), E13 IO (205) (io), E15 IO (190) (io), F2 IO (9) (io), F3 IO (4) (io), F5 VCCIO8 (11) (power), F11 IO (213) (io), F12 VCCIO2 (197) (power), F14 IO (194) (io), G2 IO (6) (io), G4 IO/DATA6 (3) (io), G10 IO (217) (io), H5 IO/nCS (12) (io), H6 IO/DATA7 (7) (io), H7 VCCIO8 (power), H10 VCCIO2 (219) (power), H15 CLK3p (156) (in), H16 IO/CLK3n (155) (io), J4 CLK2p (26) (in), J5 IO/CLK2n (23) (io), J6 IO/nRS (10) (io), J12 IO (151) (io), J13 IO (149) (io), K5 IO/nWS (8) (io), K13 IO (143) (io), K14 IO (145) (io), K15 IO/CLK1n (157) (io), K16 CLK1p (161) (in), L2 CLK4p (22) (in), L3 IO/CLK4n (21) (io), L5 IO/DEV_CLRn (17) (io), L9 VCCIO6 (56) (power), L12 VCCIO4 (146) (power), L13 IO (150) (io), L14 IO (154) (io), L15 IO (153) (io), M2 IO/CS (16) (io), M4 IO/CLKLK_FB2n (19) (io), M5 IO (61) (io), M9 IO (84) (io), M15 IO (148) (io), M16 IO (147) (io), M17 IO (144) (io), N7 VCCIO6 (78) (power), N8 IO (79) (io), N9 IO (85) (io), N14 VCCIO4 (power), N16 IO (142) (io), N17 IO (141) (io), P4 IO (60) (io), P6 VCCIO6 (power), P7 IO (73) (io), P8 IO (81) (io), P9 IO (86) (io), P18 IO (139) (io), R5 IO (66) (io), R6 IO (69) (io), R7 IO (77) (io), R8 IO (83) (io), R9 IO (87) (io), R10 IO (88) (io), R18 IO (138) (io), T3 IO (57) (io), T4 IO (62) (io), T5 IO (65) (io), T6 IO (70) (io), T7 IO (76) (io), T8 IO (82) (io), T17 IO (136) (io), U4 IO (63) (io), U5 IO (64) (io), U6 IO (71) (io), U7 IO (75) (io), U18 IO (137) (io), V3 IO (58) (io), V4 IO (59) (io), V5 IO (68) (io), V6 IO (72) (io), V7 IO (74) (io), V8 IO (80) (io)
part C pins: B10 TRST (220) (in), C9 TDO (230) (out), C10 nCEO (221) (out), J2 DATA0 (24) (in), J3 DCLK (25) (in), J16 MSEL1 (162) (in), J17 MSEL0 (163) (in), K2 nCE (27) (in), K3 TDI (28) (in), K12 CLKLK_ENA (160) (in), K17 nCONFIG (159) (in), M3 CLKLK_OUT2p (37) (out), N4 CLKLK_FB2p (20) (in), U8 CONF_DONE (89) (io), U9 nSTATUS (90) (io), U10 TCK (100) (in), U11 TMS (101) (in)
part D pins: A1 NC, A18 NC, B1 NC, B17 NC, B18 NC, C1 NC, C2 NC, C3 NC, C4 NC, C16 NC, C17 NC, C18 NC, D1 NC, D2 NC, D3 NC, D4 GND (power), D15 GND (power), D16 NC, D17 NC, D18 NC, E1 NC, E2 NC, E4 NC, E5 GND (power), E14 GND (power), E16 NC, E17 NC, E18 NC, F1 NC, F4 NC, F6 GND (power), F7 VCCINT (power), F13 GND (power), F15 NC, F16 NC, F18 NC, G6 VCCINT (power), G7 GND (power), G9 GND (power), G11 VCCINT (power), G12 GND (power), H8 GND (power), H9 VCCINT (power), H11 GND (power), H12 VCCINT (power), J1 NC, J7 VCC_CKLK2 (32) (power), J8 VCCINT (power), J9 GND (power), J10 GND (power), K6 VCC_CKLK4 (13) (power), K7 GND_CKLK2 (30/31) (power), K9 GND (power), K10 GND (power), K11 VCCINT (power), L6 GND_CKLK4 (14/15) (power), L7 VCCINT (power), L8 GND (power), L10 VCCINT (power), L11 GND (power), M7 GND (power), M8 VCCINT (power), M12 GND (power), M13 VCCINT (power), M14 NC, N5 VCCINT (power), N6 GND (power), N12 VCCINT (power), N13 GND (power), N15 NC, P1 NC, P2 GND_CKOUT2 (35) (power), P3 VCC_CKOUT2 (34) (power), P5 GND (power), P14 GND (power), P15 NC, P16 NC, P17 NC, R1 NC, R2 NC, R4 GND (power), R15 GND (power), R17 NC, T1 NC, T2 NC, T18 NC, U1 NC, U2 NC, U3 NC, U17 NC, V1 NC, V2 NC, V17 NC, V18 NC

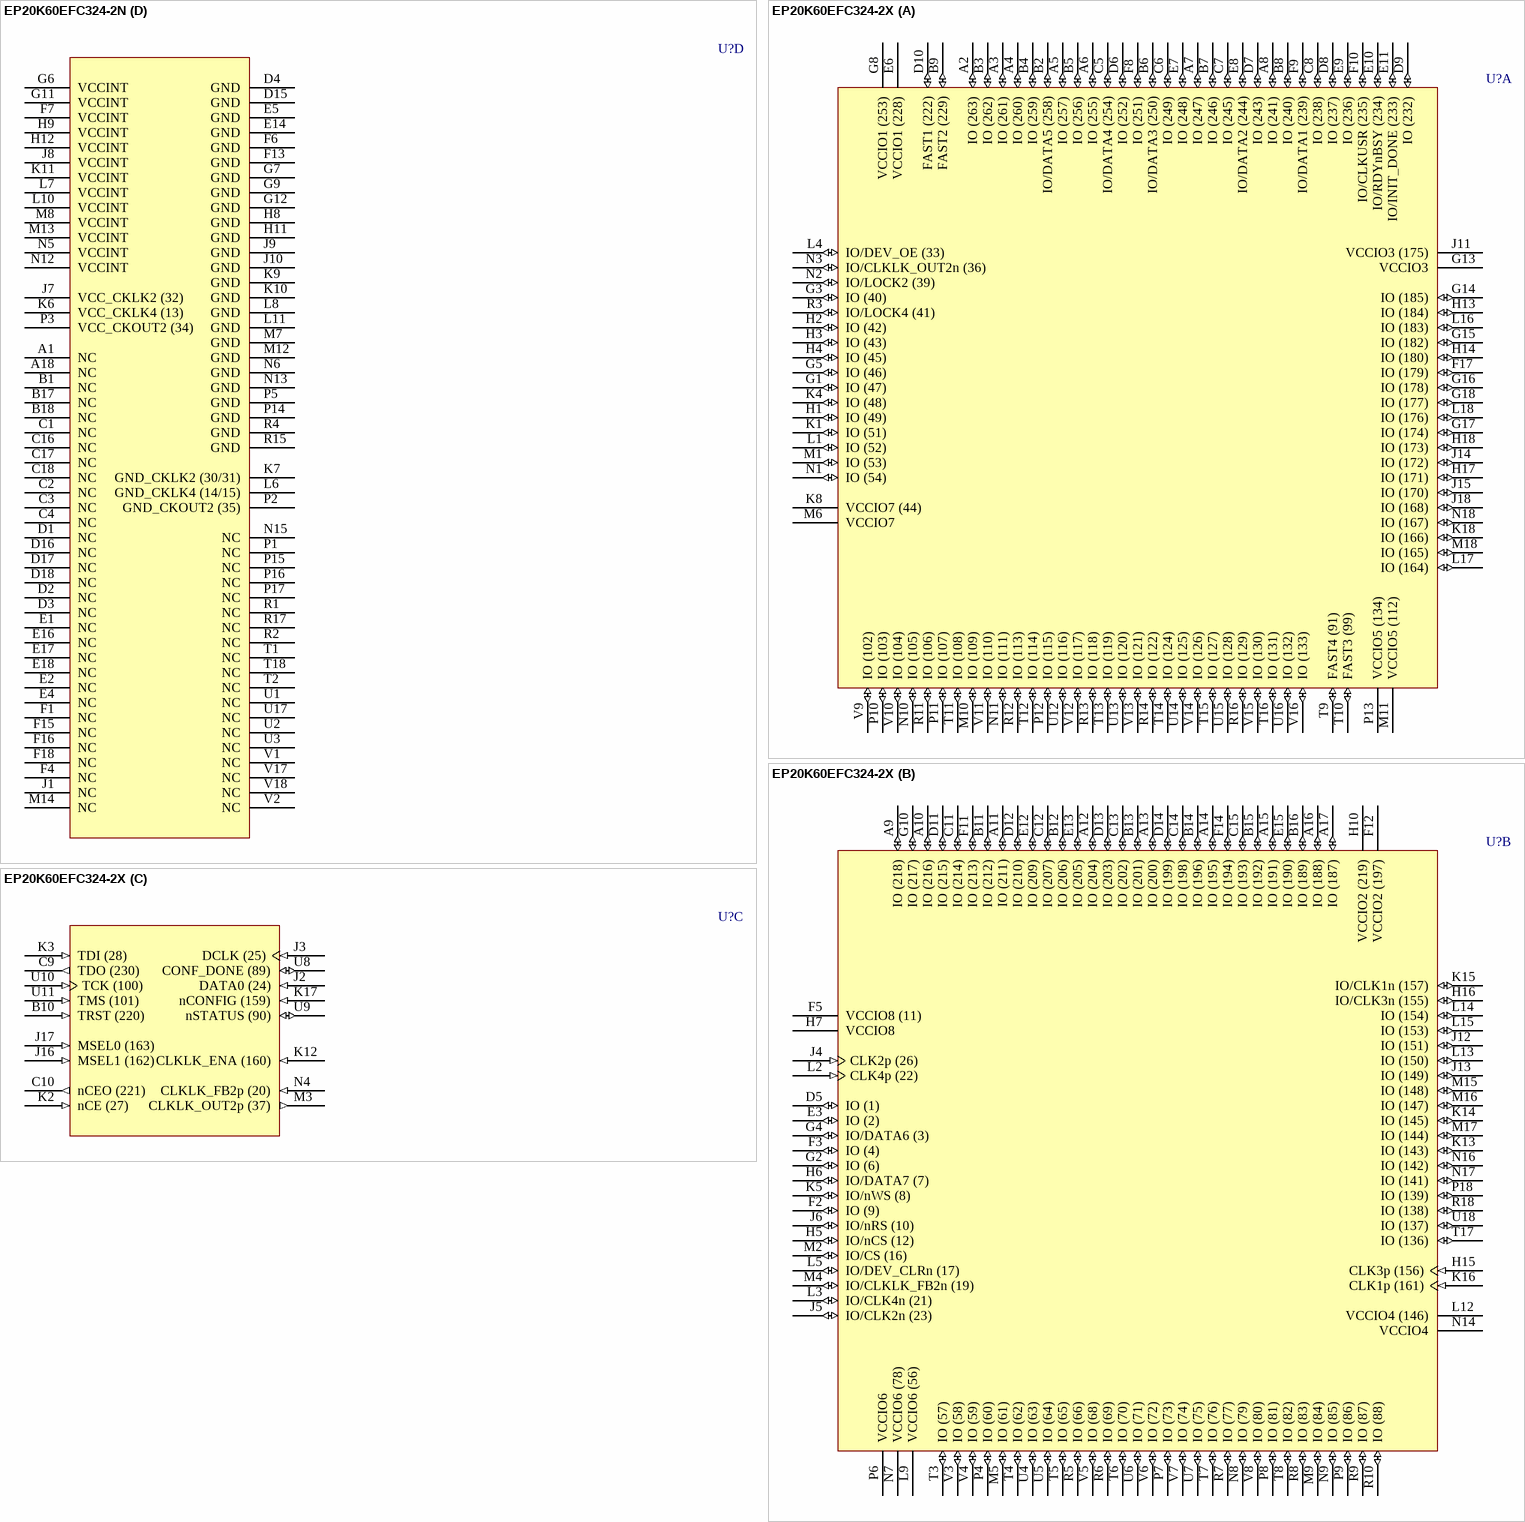
[diagram p38: symbols EP20K60EFC324-2N to EP20K60EFC324-2X]

## EP20K60EFC324-2N
designator U?
APEX 20K60E PLD, 324-Pin FBGA, Pb-Free, Commercial Grade, Speed Grade 2; Published: 4-Mar-2005; LatestRevisionDate: 13-Apr-2006; LatestRevisionNote: IPC-7351 Footprint Added.; DatasheetVersion: Mar-2004; PackageVersion: ver16.0, Dec-2009; PackageReference: FBGA324; Publisher: Altium Limited; PackageDescription: 324-Ball FineLine Ball Grid Array (FBGA324) - Wire Bond; Code_JEDEC: MS-034-AAG-1; Code_IPC: BGA100P18X18-324; ComponentLink1Description: Manufacturer Link; ComponentLink1URL: http://www.altera.com/products/devices/apex/apx-index.html; ComponentLink2Description: Datasheet; ComponentLink2URL: http://www.altera.com/literature/ds/apex.pdf
footprint FBGA324 (BGA, 324-Leads, Body 19x19mm, Pitch 1mm)
3D model EP20K60E-FBGA324 (324-Ball FineLine Ball Grid Array (FBGA324) - Wire Bond)
part A pins: A2 IO (263) (io), A3 IO (261) (io), A4 IO (260) (io), A5 IO (257) (io), A6 IO (255) (io), A7 IO (247) (io), A8 IO (241) (io), B2 IO/DATA5 (258) (io), B3 IO (262) (io), B4 IO (259) (io), B5 IO (256) (io), B6 IO/DATA3 (250) (io), B7 IO (246) (io), B8 IO (240) (io), B9 FAST2 (229) (io), C5 IO/DATA4 (254) (io), C6 IO (249) (io), C7 IO (245) (io), C8 IO (238) (io), D6 IO (252) (io), D7 IO (243) (io), D8 IO (237) (io), D9 IO (232) (io), D10 FAST1 (222) (io), E6 VCCIO1 (228) (power), E7 IO (248) (io), E8 IO/DATA2 (244) (io), E9 IO (236) (io), E10 IO/RDYnBSY (234) (io), E11 IO/INIT_DONE (233) (io), F8 IO (251) (io), F9 IO/DATA1 (239) (io), F10 IO/CLKUSR (235) (io), F17 IO (179) (io), G1 IO (47) (io), G3 IO (40) (io), G5 IO (46) (io), G8 VCCIO1 (253) (power), G13 VCCIO3 (power), G14 IO (185) (io), G15 IO (182) (io), G16 IO (178) (io), G17 IO (174) (io), G18 IO (177) (io), H1 IO (49) (io), H2 IO (42) (io), H3 IO (43) (io), H4 IO (45) (io), H13 IO (184) (io), H14 IO (180) (io), H17 IO (171) (io), H18 IO (173) (io), J11 VCCIO3 (175) (power), J14 IO (172) (io), J15 IO (170) (io), J18 IO (168) (io), K1 IO (51) (io), K4 IO (48) (io), K8 VCCIO7 (44) (power), K18 IO (166) (io), L1 IO (52) (io), L4 IO/DEV_OE (33) (io), L16 IO (183) (io), L17 IO (164) (io), L18 IO (176) (io), M1 IO (53) (io), M6 VCCIO7 (power), M10 IO (109) (io), M11 VCCIO5 (112) (power), M18 IO (165) (io), N1 IO (54) (io), N2 IO/LOCK2 (39) (io), N3 IO/CLKLK_OUT2n (36) (io), N10 IO (105) (io), N11 IO (111) (io), N18 IO (167) (io), P10 IO (103) (io), P11 IO (107) (io), P12 IO (115) (io), P13 VCCIO5 (134) (power), R3 IO/LOCK4 (41) (io), R11 IO (106) (io), R12 IO (113) (io), R13 IO (118) (io), R14 IO (122) (io), R16 IO (129) (io), T9 FAST4 (91) (io), T10 FAST3 (99) (io), T11 IO (108) (io), T12 IO (114) (io), T13 IO (119) (io), T14 IO (124) (io), T15 IO (127) (io), T16 IO (131) (io), U12 IO (116) (io), U13 IO (120) (io), U14 IO (125) (io), U15 IO (128) (io), U16 IO (132) (io), V9 IO (102) (io), V10 IO (104) (io), V11 IO (110) (io), V12 IO (117) (io), V13 IO (121) (io), V14 IO (126) (io), V15 IO (130) (io), V16 IO (133) (io)
part B pins: A9 IO (218) (io), A10 IO (216) (io), A11 IO (211) (io), A12 IO (204) (io), A13 IO (200) (io), A14 IO (195) (io), A15 IO (191) (io), A16 IO (188) (io), A17 IO (187) (io), B11 IO (212) (io), B12 IO (206) (io), B13 IO (201) (io), B14 IO (196) (io), B15 IO (192) (io), B16 IO (189) (io), C11 IO (214) (io), C12 IO (207) (io), C13 IO (202) (io), C14 IO (198) (io), C15 IO (193) (io), D5 IO (1) (io), D11 IO (215) (io), D12 IO (210) (io), D13 IO (203) (io), D14 IO (199) (io), E3 IO (2) (io), E12 IO (209) (io), E13 IO (205) (io), E15 IO (190) (io), F2 IO (9) (io), F3 IO (4) (io), F5 VCCIO8 (11) (power), F11 IO (213) (io), F12 VCCIO2 (197) (power), F14 IO (194) (io), G2 IO (6) (io), G4 IO/DATA6 (3) (io), G10 IO (217) (io), H5 IO/nCS (12) (io), H6 IO/DATA7 (7) (io), H7 VCCIO8 (power), H10 VCCIO2 (219) (power), H15 CLK3p (156) (in), H16 IO/CLK3n (155) (io), J4 CLK2p (26) (in), J5 IO/CLK2n (23) (io), J6 IO/nRS (10) (io), J12 IO (151) (io), J13 IO (149) (io), K5 IO/nWS (8) (io), K13 IO (143) (io), K14 IO (145) (io), K15 IO/CLK1n (157) (io), K16 CLK1p (161) (in), L2 CLK4p (22) (in), L3 IO/CLK4n (21) (io), L5 IO/DEV_CLRn (17) (io), L9 VCCIO6 (56) (power), L12 VCCIO4 (146) (power), L13 IO (150) (io), L14 IO (154) (io), L15 IO (153) (io), M2 IO/CS (16) (io), M4 IO/CLKLK_FB2n (19) (io), M5 IO (61) (io), M9 IO (84) (io), M15 IO (148) (io), M16 IO (147) (io), M17 IO (144) (io), N7 VCCIO6 (78) (power), N8 IO (79) (io), N9 IO (85) (io), N14 VCCIO4 (power), N16 IO (142) (io), N17 IO (141) (io), P4 IO (60) (io), P6 VCCIO6 (power), P7 IO (73) (io), P8 IO (81) (io), P9 IO (86) (io), P18 IO (139) (io), R5 IO (66) (io), R6 IO (69) (io), R7 IO (77) (io), R8 IO (83) (io), R9 IO (87) (io), R10 IO (88) (io), R18 IO (138) (io), T3 IO (57) (io), T4 IO (62) (io), T5 IO (65) (io), T6 IO (70) (io), T7 IO (76) (io), T8 IO (82) (io), T17 IO (136) (io), U4 IO (63) (io), U5 IO (64) (io), U6 IO (71) (io), U7 IO (75) (io), U18 IO (137) (io), V3 IO (58) (io), V4 IO (59) (io), V5 IO (68) (io), V6 IO (72) (io), V7 IO (74) (io), V8 IO (80) (io)
part C pins: B10 TRST (220) (in), C9 TDO (230) (out), C10 nCEO (221) (out), J2 DATA0 (24) (in), J3 DCLK (25) (in), J16 MSEL1 (162) (in), J17 MSEL0 (163) (in), K2 nCE (27) (in), K3 TDI (28) (in), K12 CLKLK_ENA (160) (in), K17 nCONFIG (159) (in), M3 CLKLK_OUT2p (37) (out), N4 CLKLK_FB2p (20) (in), U8 CONF_DONE (89) (io), U9 nSTATUS (90) (io), U10 TCK (100) (in), U11 TMS (101) (in)
part D pins: A1 NC, A18 NC, B1 NC, B17 NC, B18 NC, C1 NC, C2 NC, C3 NC, C4 NC, C16 NC, C17 NC, C18 NC, D1 NC, D2 NC, D3 NC, D4 GND (power), D15 GND (power), D16 NC, D17 NC, D18 NC, E1 NC, E2 NC, E4 NC, E5 GND (power), E14 GND (power), E16 NC, E17 NC, E18 NC, F1 NC, F4 NC, F6 GND (power), F7 VCCINT (power), F13 GND (power), F15 NC, F16 NC, F18 NC, G6 VCCINT (power), G7 GND (power), G9 GND (power), G11 VCCINT (power), G12 GND (power), H8 GND (power), H9 VCCINT (power), H11 GND (power), H12 VCCINT (power), J1 NC, J7 VCC_CKLK2 (32) (power), J8 VCCINT (power), J9 GND (power), J10 GND (power), K6 VCC_CKLK4 (13) (power), K7 GND_CKLK2 (30/31) (power), K9 GND (power), K10 GND (power), K11 VCCINT (power), L6 GND_CKLK4 (14/15) (power), L7 VCCINT (power), L8 GND (power), L10 VCCINT (power), L11 GND (power), M7 GND (power), M8 VCCINT (power), M12 GND (power), M13 VCCINT (power), M14 NC, N5 VCCINT (power), N6 GND (power), N12 VCCINT (power), N13 GND (power), N15 NC, P1 NC, P2 GND_CKOUT2 (35) (power), P3 VCC_CKOUT2 (34) (power), P5 GND (power), P14 GND (power), P15 NC, P16 NC, P17 NC, R1 NC, R2 NC, R4 GND (power), R15 GND (power), R17 NC, T1 NC, T2 NC, T18 NC, U1 NC, U2 NC, U3 NC, U17 NC, V1 NC, V2 NC, V17 NC, V18 NC

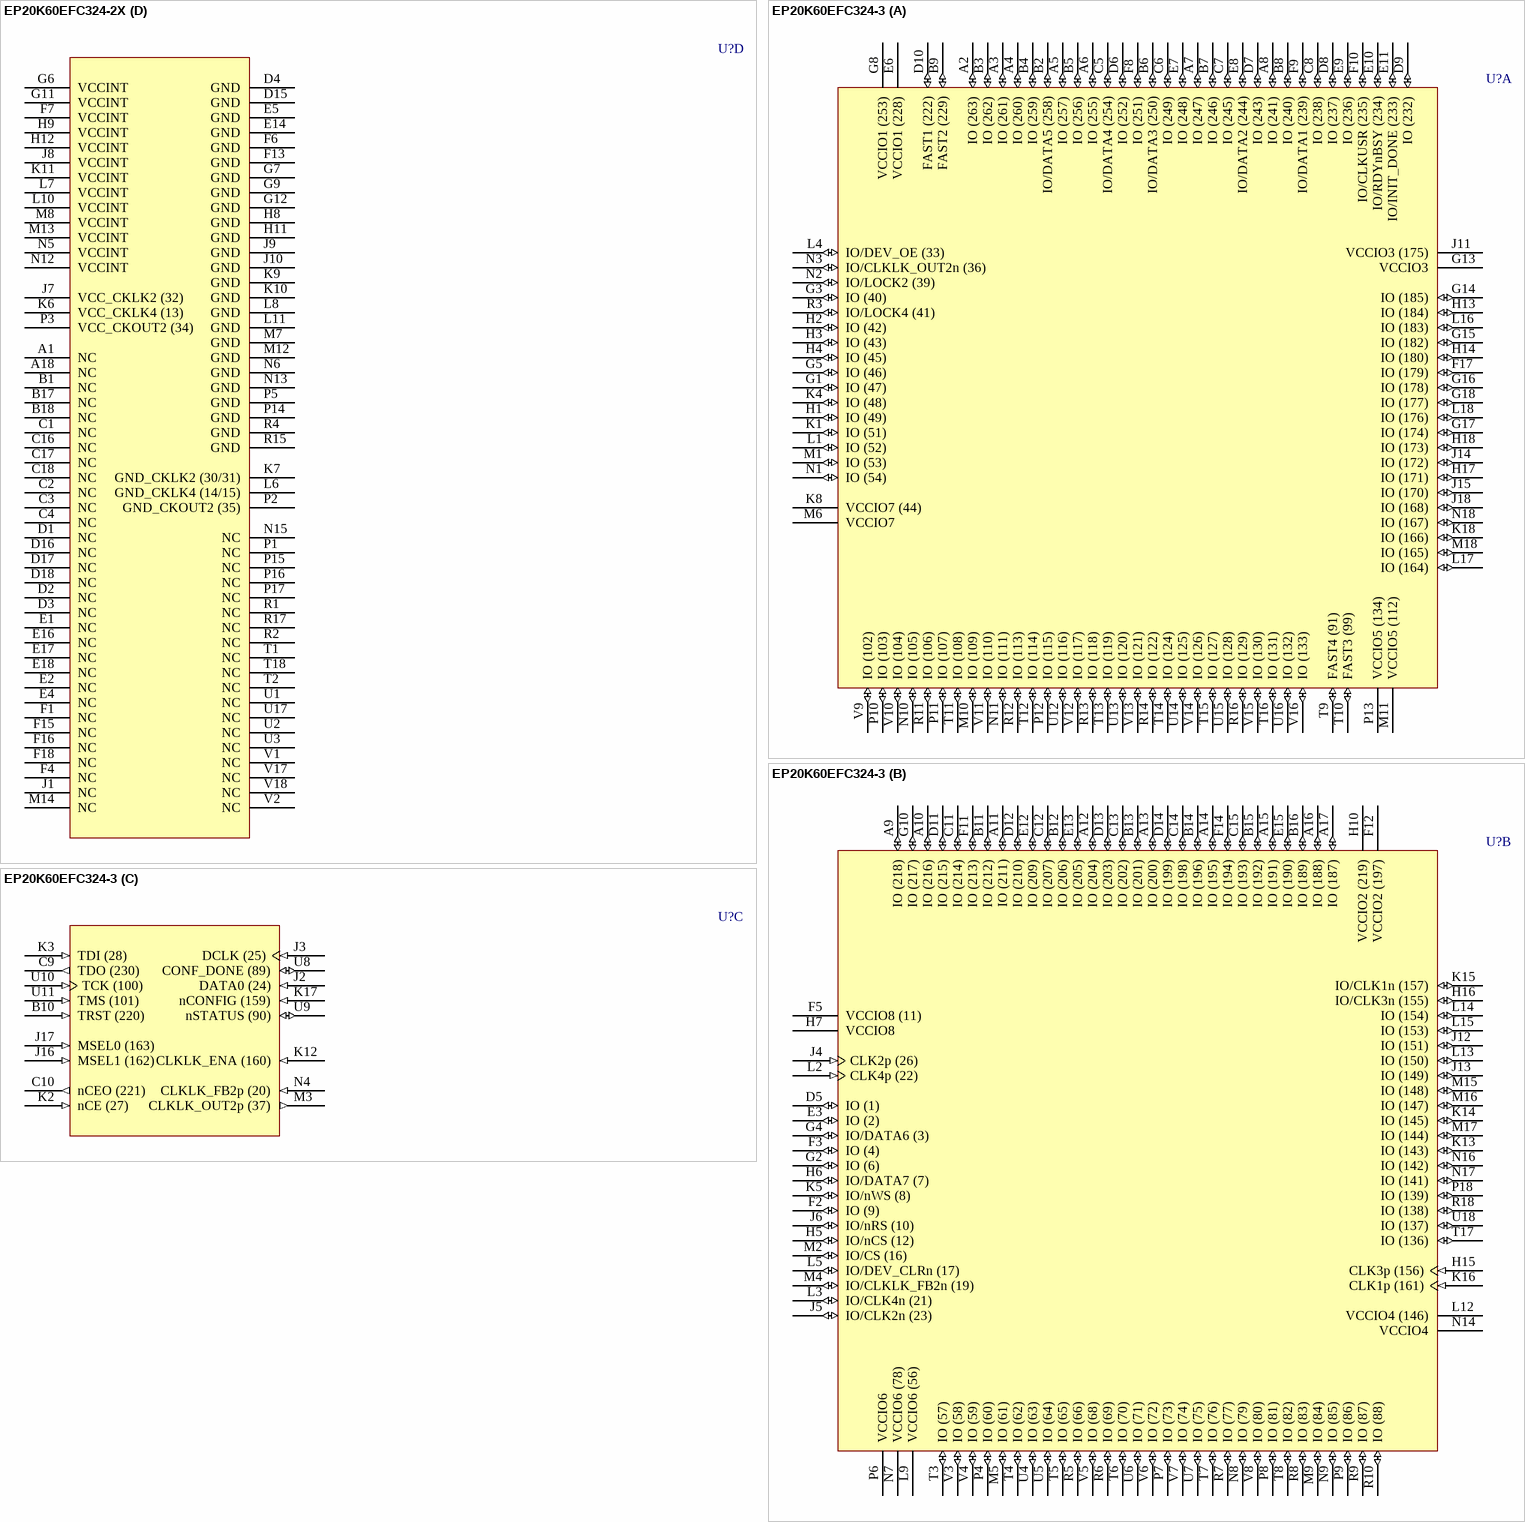
[diagram p39: symbols EP20K60EFC324-2X to EP20K60EFC324-3]

## EP20K60EFC324-2X
designator U?
APEX 20K60E PLD with PLLs and LVDS, 324-Pin FBGA, Commercial Grade, Speed Grade 2; Published: 17-Jul-2002; LatestRevisionDate: 13-Apr-2006; LatestRevisionNote: IPC-7351 Footprint Added.; DatasheetVersion: Mar-2004; PackageVersion: ver16.0, Dec-2009; PackageReference: FBGA324; Publisher: Altium Limited; PackageDescription: 324-Ball FineLine Ball Grid Array (FBGA324) - Wire Bond; Code_JEDEC: MS-034-AAG-1; Code_IPC: BGA100P18X18-324; ComponentLink1Description: Manufacturer Link; ComponentLink1URL: http://www.altera.com/products/devices/apex/apx-index.html; ComponentLink2Description: Datasheet; ComponentLink2URL: http://www.altera.com/literature/ds/apex.pdf
footprint FBGA324 (BGA, 324-Leads, Body 19x19mm, Pitch 1mm)
3D model EP20K60E-FBGA324 (324-Ball FineLine Ball Grid Array (FBGA324) - Wire Bond)
part A pins: A2 IO (263) (io), A3 IO (261) (io), A4 IO (260) (io), A5 IO (257) (io), A6 IO (255) (io), A7 IO (247) (io), A8 IO (241) (io), B2 IO/DATA5 (258) (io), B3 IO (262) (io), B4 IO (259) (io), B5 IO (256) (io), B6 IO/DATA3 (250) (io), B7 IO (246) (io), B8 IO (240) (io), B9 FAST2 (229) (io), C5 IO/DATA4 (254) (io), C6 IO (249) (io), C7 IO (245) (io), C8 IO (238) (io), D6 IO (252) (io), D7 IO (243) (io), D8 IO (237) (io), D9 IO (232) (io), D10 FAST1 (222) (io), E6 VCCIO1 (228) (power), E7 IO (248) (io), E8 IO/DATA2 (244) (io), E9 IO (236) (io), E10 IO/RDYnBSY (234) (io), E11 IO/INIT_DONE (233) (io), F8 IO (251) (io), F9 IO/DATA1 (239) (io), F10 IO/CLKUSR (235) (io), F17 IO (179) (io), G1 IO (47) (io), G3 IO (40) (io), G5 IO (46) (io), G8 VCCIO1 (253) (power), G13 VCCIO3 (power), G14 IO (185) (io), G15 IO (182) (io), G16 IO (178) (io), G17 IO (174) (io), G18 IO (177) (io), H1 IO (49) (io), H2 IO (42) (io), H3 IO (43) (io), H4 IO (45) (io), H13 IO (184) (io), H14 IO (180) (io), H17 IO (171) (io), H18 IO (173) (io), J11 VCCIO3 (175) (power), J14 IO (172) (io), J15 IO (170) (io), J18 IO (168) (io), K1 IO (51) (io), K4 IO (48) (io), K8 VCCIO7 (44) (power), K18 IO (166) (io), L1 IO (52) (io), L4 IO/DEV_OE (33) (io), L16 IO (183) (io), L17 IO (164) (io), L18 IO (176) (io), M1 IO (53) (io), M6 VCCIO7 (power), M10 IO (109) (io), M11 VCCIO5 (112) (power), M18 IO (165) (io), N1 IO (54) (io), N2 IO/LOCK2 (39) (io), N3 IO/CLKLK_OUT2n (36) (io), N10 IO (105) (io), N11 IO (111) (io), N18 IO (167) (io), P10 IO (103) (io), P11 IO (107) (io), P12 IO (115) (io), P13 VCCIO5 (134) (power), R3 IO/LOCK4 (41) (io), R11 IO (106) (io), R12 IO (113) (io), R13 IO (118) (io), R14 IO (122) (io), R16 IO (129) (io), T9 FAST4 (91) (io), T10 FAST3 (99) (io), T11 IO (108) (io), T12 IO (114) (io), T13 IO (119) (io), T14 IO (124) (io), T15 IO (127) (io), T16 IO (131) (io), U12 IO (116) (io), U13 IO (120) (io), U14 IO (125) (io), U15 IO (128) (io), U16 IO (132) (io), V9 IO (102) (io), V10 IO (104) (io), V11 IO (110) (io), V12 IO (117) (io), V13 IO (121) (io), V14 IO (126) (io), V15 IO (130) (io), V16 IO (133) (io)
part B pins: A9 IO (218) (io), A10 IO (216) (io), A11 IO (211) (io), A12 IO (204) (io), A13 IO (200) (io), A14 IO (195) (io), A15 IO (191) (io), A16 IO (188) (io), A17 IO (187) (io), B11 IO (212) (io), B12 IO (206) (io), B13 IO (201) (io), B14 IO (196) (io), B15 IO (192) (io), B16 IO (189) (io), C11 IO (214) (io), C12 IO (207) (io), C13 IO (202) (io), C14 IO (198) (io), C15 IO (193) (io), D5 IO (1) (io), D11 IO (215) (io), D12 IO (210) (io), D13 IO (203) (io), D14 IO (199) (io), E3 IO (2) (io), E12 IO (209) (io), E13 IO (205) (io), E15 IO (190) (io), F2 IO (9) (io), F3 IO (4) (io), F5 VCCIO8 (11) (power), F11 IO (213) (io), F12 VCCIO2 (197) (power), F14 IO (194) (io), G2 IO (6) (io), G4 IO/DATA6 (3) (io), G10 IO (217) (io), H5 IO/nCS (12) (io), H6 IO/DATA7 (7) (io), H7 VCCIO8 (power), H10 VCCIO2 (219) (power), H15 CLK3p (156) (in), H16 IO/CLK3n (155) (io), J4 CLK2p (26) (in), J5 IO/CLK2n (23) (io), J6 IO/nRS (10) (io), J12 IO (151) (io), J13 IO (149) (io), K5 IO/nWS (8) (io), K13 IO (143) (io), K14 IO (145) (io), K15 IO/CLK1n (157) (io), K16 CLK1p (161) (in), L2 CLK4p (22) (in), L3 IO/CLK4n (21) (io), L5 IO/DEV_CLRn (17) (io), L9 VCCIO6 (56) (power), L12 VCCIO4 (146) (power), L13 IO (150) (io), L14 IO (154) (io), L15 IO (153) (io), M2 IO/CS (16) (io), M4 IO/CLKLK_FB2n (19) (io), M5 IO (61) (io), M9 IO (84) (io), M15 IO (148) (io), M16 IO (147) (io), M17 IO (144) (io), N7 VCCIO6 (78) (power), N8 IO (79) (io), N9 IO (85) (io), N14 VCCIO4 (power), N16 IO (142) (io), N17 IO (141) (io), P4 IO (60) (io), P6 VCCIO6 (power), P7 IO (73) (io), P8 IO (81) (io), P9 IO (86) (io), P18 IO (139) (io), R5 IO (66) (io), R6 IO (69) (io), R7 IO (77) (io), R8 IO (83) (io), R9 IO (87) (io), R10 IO (88) (io), R18 IO (138) (io), T3 IO (57) (io), T4 IO (62) (io), T5 IO (65) (io), T6 IO (70) (io), T7 IO (76) (io), T8 IO (82) (io), T17 IO (136) (io), U4 IO (63) (io), U5 IO (64) (io), U6 IO (71) (io), U7 IO (75) (io), U18 IO (137) (io), V3 IO (58) (io), V4 IO (59) (io), V5 IO (68) (io), V6 IO (72) (io), V7 IO (74) (io), V8 IO (80) (io)
part C pins: B10 TRST (220) (in), C9 TDO (230) (out), C10 nCEO (221) (out), J2 DATA0 (24) (in), J3 DCLK (25) (in), J16 MSEL1 (162) (in), J17 MSEL0 (163) (in), K2 nCE (27) (in), K3 TDI (28) (in), K12 CLKLK_ENA (160) (in), K17 nCONFIG (159) (in), M3 CLKLK_OUT2p (37) (out), N4 CLKLK_FB2p (20) (in), U8 CONF_DONE (89) (io), U9 nSTATUS (90) (io), U10 TCK (100) (in), U11 TMS (101) (in)
part D pins: A1 NC, A18 NC, B1 NC, B17 NC, B18 NC, C1 NC, C2 NC, C3 NC, C4 NC, C16 NC, C17 NC, C18 NC, D1 NC, D2 NC, D3 NC, D4 GND (power), D15 GND (power), D16 NC, D17 NC, D18 NC, E1 NC, E2 NC, E4 NC, E5 GND (power), E14 GND (power), E16 NC, E17 NC, E18 NC, F1 NC, F4 NC, F6 GND (power), F7 VCCINT (power), F13 GND (power), F15 NC, F16 NC, F18 NC, G6 VCCINT (power), G7 GND (power), G9 GND (power), G11 VCCINT (power), G12 GND (power), H8 GND (power), H9 VCCINT (power), H11 GND (power), H12 VCCINT (power), J1 NC, J7 VCC_CKLK2 (32) (power), J8 VCCINT (power), J9 GND (power), J10 GND (power), K6 VCC_CKLK4 (13) (power), K7 GND_CKLK2 (30/31) (power), K9 GND (power), K10 GND (power), K11 VCCINT (power), L6 GND_CKLK4 (14/15) (power), L7 VCCINT (power), L8 GND (power), L10 VCCINT (power), L11 GND (power), M7 GND (power), M8 VCCINT (power), M12 GND (power), M13 VCCINT (power), M14 NC, N5 VCCINT (power), N6 GND (power), N12 VCCINT (power), N13 GND (power), N15 NC, P1 NC, P2 GND_CKOUT2 (35) (power), P3 VCC_CKOUT2 (34) (power), P5 GND (power), P14 GND (power), P15 NC, P16 NC, P17 NC, R1 NC, R2 NC, R4 GND (power), R15 GND (power), R17 NC, T1 NC, T2 NC, T18 NC, U1 NC, U2 NC, U3 NC, U17 NC, V1 NC, V2 NC, V17 NC, V18 NC

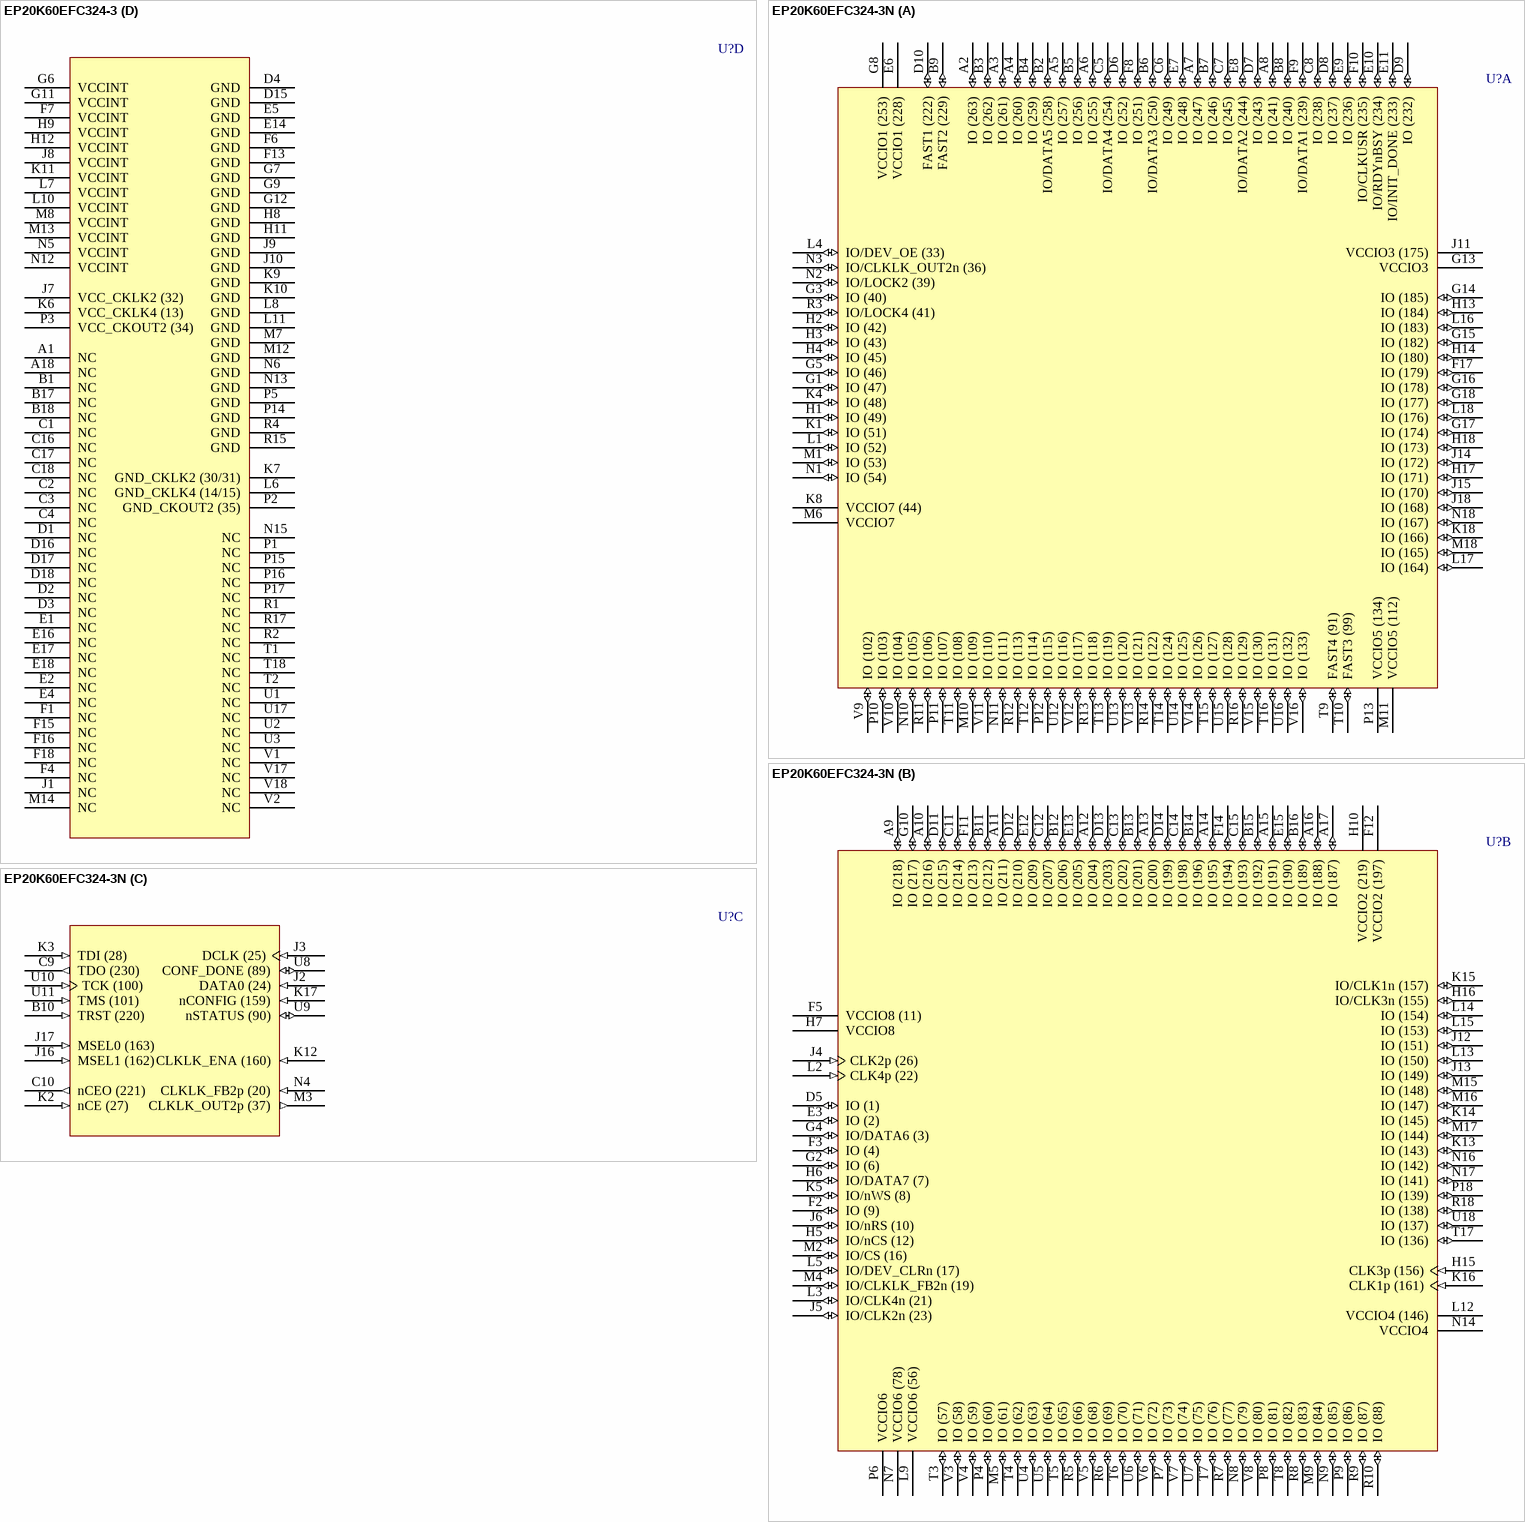
[diagram p40: symbols EP20K60EFC324-3 to EP20K60EFC324-3N]

## EP20K60EFC324-3
designator U?
APEX 20K60E PLD, 324-Pin FBGA, Commercial Grade, Speed Grade 3; Published: 17-Jul-2002; LatestRevisionDate: 13-Apr-2006; LatestRevisionNote: IPC-7351 Footprint Added.; DatasheetVersion: Mar-2004; PackageVersion: ver16.0, Dec-2009; PackageReference: FBGA324; Publisher: Altium Limited; PackageDescription: 324-Ball FineLine Ball Grid Array (FBGA324) - Wire Bond; Code_JEDEC: MS-034-AAG-1; Code_IPC: BGA100P18X18-324; ComponentLink1Description: Manufacturer Link; ComponentLink1URL: http://www.altera.com/products/devices/apex/apx-index.html; ComponentLink2Description: Datasheet; ComponentLink2URL: http://www.altera.com/literature/ds/apex.pdf
footprint FBGA324 (BGA, 324-Leads, Body 19x19mm, Pitch 1mm)
3D model EP20K60E-FBGA324 (324-Ball FineLine Ball Grid Array (FBGA324) - Wire Bond)
part A pins: A2 IO (263) (io), A3 IO (261) (io), A4 IO (260) (io), A5 IO (257) (io), A6 IO (255) (io), A7 IO (247) (io), A8 IO (241) (io), B2 IO/DATA5 (258) (io), B3 IO (262) (io), B4 IO (259) (io), B5 IO (256) (io), B6 IO/DATA3 (250) (io), B7 IO (246) (io), B8 IO (240) (io), B9 FAST2 (229) (io), C5 IO/DATA4 (254) (io), C6 IO (249) (io), C7 IO (245) (io), C8 IO (238) (io), D6 IO (252) (io), D7 IO (243) (io), D8 IO (237) (io), D9 IO (232) (io), D10 FAST1 (222) (io), E6 VCCIO1 (228) (power), E7 IO (248) (io), E8 IO/DATA2 (244) (io), E9 IO (236) (io), E10 IO/RDYnBSY (234) (io), E11 IO/INIT_DONE (233) (io), F8 IO (251) (io), F9 IO/DATA1 (239) (io), F10 IO/CLKUSR (235) (io), F17 IO (179) (io), G1 IO (47) (io), G3 IO (40) (io), G5 IO (46) (io), G8 VCCIO1 (253) (power), G13 VCCIO3 (power), G14 IO (185) (io), G15 IO (182) (io), G16 IO (178) (io), G17 IO (174) (io), G18 IO (177) (io), H1 IO (49) (io), H2 IO (42) (io), H3 IO (43) (io), H4 IO (45) (io), H13 IO (184) (io), H14 IO (180) (io), H17 IO (171) (io), H18 IO (173) (io), J11 VCCIO3 (175) (power), J14 IO (172) (io), J15 IO (170) (io), J18 IO (168) (io), K1 IO (51) (io), K4 IO (48) (io), K8 VCCIO7 (44) (power), K18 IO (166) (io), L1 IO (52) (io), L4 IO/DEV_OE (33) (io), L16 IO (183) (io), L17 IO (164) (io), L18 IO (176) (io), M1 IO (53) (io), M6 VCCIO7 (power), M10 IO (109) (io), M11 VCCIO5 (112) (power), M18 IO (165) (io), N1 IO (54) (io), N2 IO/LOCK2 (39) (io), N3 IO/CLKLK_OUT2n (36) (io), N10 IO (105) (io), N11 IO (111) (io), N18 IO (167) (io), P10 IO (103) (io), P11 IO (107) (io), P12 IO (115) (io), P13 VCCIO5 (134) (power), R3 IO/LOCK4 (41) (io), R11 IO (106) (io), R12 IO (113) (io), R13 IO (118) (io), R14 IO (122) (io), R16 IO (129) (io), T9 FAST4 (91) (io), T10 FAST3 (99) (io), T11 IO (108) (io), T12 IO (114) (io), T13 IO (119) (io), T14 IO (124) (io), T15 IO (127) (io), T16 IO (131) (io), U12 IO (116) (io), U13 IO (120) (io), U14 IO (125) (io), U15 IO (128) (io), U16 IO (132) (io), V9 IO (102) (io), V10 IO (104) (io), V11 IO (110) (io), V12 IO (117) (io), V13 IO (121) (io), V14 IO (126) (io), V15 IO (130) (io), V16 IO (133) (io)
part B pins: A9 IO (218) (io), A10 IO (216) (io), A11 IO (211) (io), A12 IO (204) (io), A13 IO (200) (io), A14 IO (195) (io), A15 IO (191) (io), A16 IO (188) (io), A17 IO (187) (io), B11 IO (212) (io), B12 IO (206) (io), B13 IO (201) (io), B14 IO (196) (io), B15 IO (192) (io), B16 IO (189) (io), C11 IO (214) (io), C12 IO (207) (io), C13 IO (202) (io), C14 IO (198) (io), C15 IO (193) (io), D5 IO (1) (io), D11 IO (215) (io), D12 IO (210) (io), D13 IO (203) (io), D14 IO (199) (io), E3 IO (2) (io), E12 IO (209) (io), E13 IO (205) (io), E15 IO (190) (io), F2 IO (9) (io), F3 IO (4) (io), F5 VCCIO8 (11) (power), F11 IO (213) (io), F12 VCCIO2 (197) (power), F14 IO (194) (io), G2 IO (6) (io), G4 IO/DATA6 (3) (io), G10 IO (217) (io), H5 IO/nCS (12) (io), H6 IO/DATA7 (7) (io), H7 VCCIO8 (power), H10 VCCIO2 (219) (power), H15 CLK3p (156) (in), H16 IO/CLK3n (155) (io), J4 CLK2p (26) (in), J5 IO/CLK2n (23) (io), J6 IO/nRS (10) (io), J12 IO (151) (io), J13 IO (149) (io), K5 IO/nWS (8) (io), K13 IO (143) (io), K14 IO (145) (io), K15 IO/CLK1n (157) (io), K16 CLK1p (161) (in), L2 CLK4p (22) (in), L3 IO/CLK4n (21) (io), L5 IO/DEV_CLRn (17) (io), L9 VCCIO6 (56) (power), L12 VCCIO4 (146) (power), L13 IO (150) (io), L14 IO (154) (io), L15 IO (153) (io), M2 IO/CS (16) (io), M4 IO/CLKLK_FB2n (19) (io), M5 IO (61) (io), M9 IO (84) (io), M15 IO (148) (io), M16 IO (147) (io), M17 IO (144) (io), N7 VCCIO6 (78) (power), N8 IO (79) (io), N9 IO (85) (io), N14 VCCIO4 (power), N16 IO (142) (io), N17 IO (141) (io), P4 IO (60) (io), P6 VCCIO6 (power), P7 IO (73) (io), P8 IO (81) (io), P9 IO (86) (io), P18 IO (139) (io), R5 IO (66) (io), R6 IO (69) (io), R7 IO (77) (io), R8 IO (83) (io), R9 IO (87) (io), R10 IO (88) (io), R18 IO (138) (io), T3 IO (57) (io), T4 IO (62) (io), T5 IO (65) (io), T6 IO (70) (io), T7 IO (76) (io), T8 IO (82) (io), T17 IO (136) (io), U4 IO (63) (io), U5 IO (64) (io), U6 IO (71) (io), U7 IO (75) (io), U18 IO (137) (io), V3 IO (58) (io), V4 IO (59) (io), V5 IO (68) (io), V6 IO (72) (io), V7 IO (74) (io), V8 IO (80) (io)
part C pins: B10 TRST (220) (in), C9 TDO (230) (out), C10 nCEO (221) (out), J2 DATA0 (24) (in), J3 DCLK (25) (in), J16 MSEL1 (162) (in), J17 MSEL0 (163) (in), K2 nCE (27) (in), K3 TDI (28) (in), K12 CLKLK_ENA (160) (in), K17 nCONFIG (159) (in), M3 CLKLK_OUT2p (37) (out), N4 CLKLK_FB2p (20) (in), U8 CONF_DONE (89) (io), U9 nSTATUS (90) (io), U10 TCK (100) (in), U11 TMS (101) (in)
part D pins: A1 NC, A18 NC, B1 NC, B17 NC, B18 NC, C1 NC, C2 NC, C3 NC, C4 NC, C16 NC, C17 NC, C18 NC, D1 NC, D2 NC, D3 NC, D4 GND (power), D15 GND (power), D16 NC, D17 NC, D18 NC, E1 NC, E2 NC, E4 NC, E5 GND (power), E14 GND (power), E16 NC, E17 NC, E18 NC, F1 NC, F4 NC, F6 GND (power), F7 VCCINT (power), F13 GND (power), F15 NC, F16 NC, F18 NC, G6 VCCINT (power), G7 GND (power), G9 GND (power), G11 VCCINT (power), G12 GND (power), H8 GND (power), H9 VCCINT (power), H11 GND (power), H12 VCCINT (power), J1 NC, J7 VCC_CKLK2 (32) (power), J8 VCCINT (power), J9 GND (power), J10 GND (power), K6 VCC_CKLK4 (13) (power), K7 GND_CKLK2 (30/31) (power), K9 GND (power), K10 GND (power), K11 VCCINT (power), L6 GND_CKLK4 (14/15) (power), L7 VCCINT (power), L8 GND (power), L10 VCCINT (power), L11 GND (power), M7 GND (power), M8 VCCINT (power), M12 GND (power), M13 VCCINT (power), M14 NC, N5 VCCINT (power), N6 GND (power), N12 VCCINT (power), N13 GND (power), N15 NC, P1 NC, P2 GND_CKOUT2 (35) (power), P3 VCC_CKOUT2 (34) (power), P5 GND (power), P14 GND (power), P15 NC, P16 NC, P17 NC, R1 NC, R2 NC, R4 GND (power), R15 GND (power), R17 NC, T1 NC, T2 NC, T18 NC, U1 NC, U2 NC, U3 NC, U17 NC, V1 NC, V2 NC, V17 NC, V18 NC

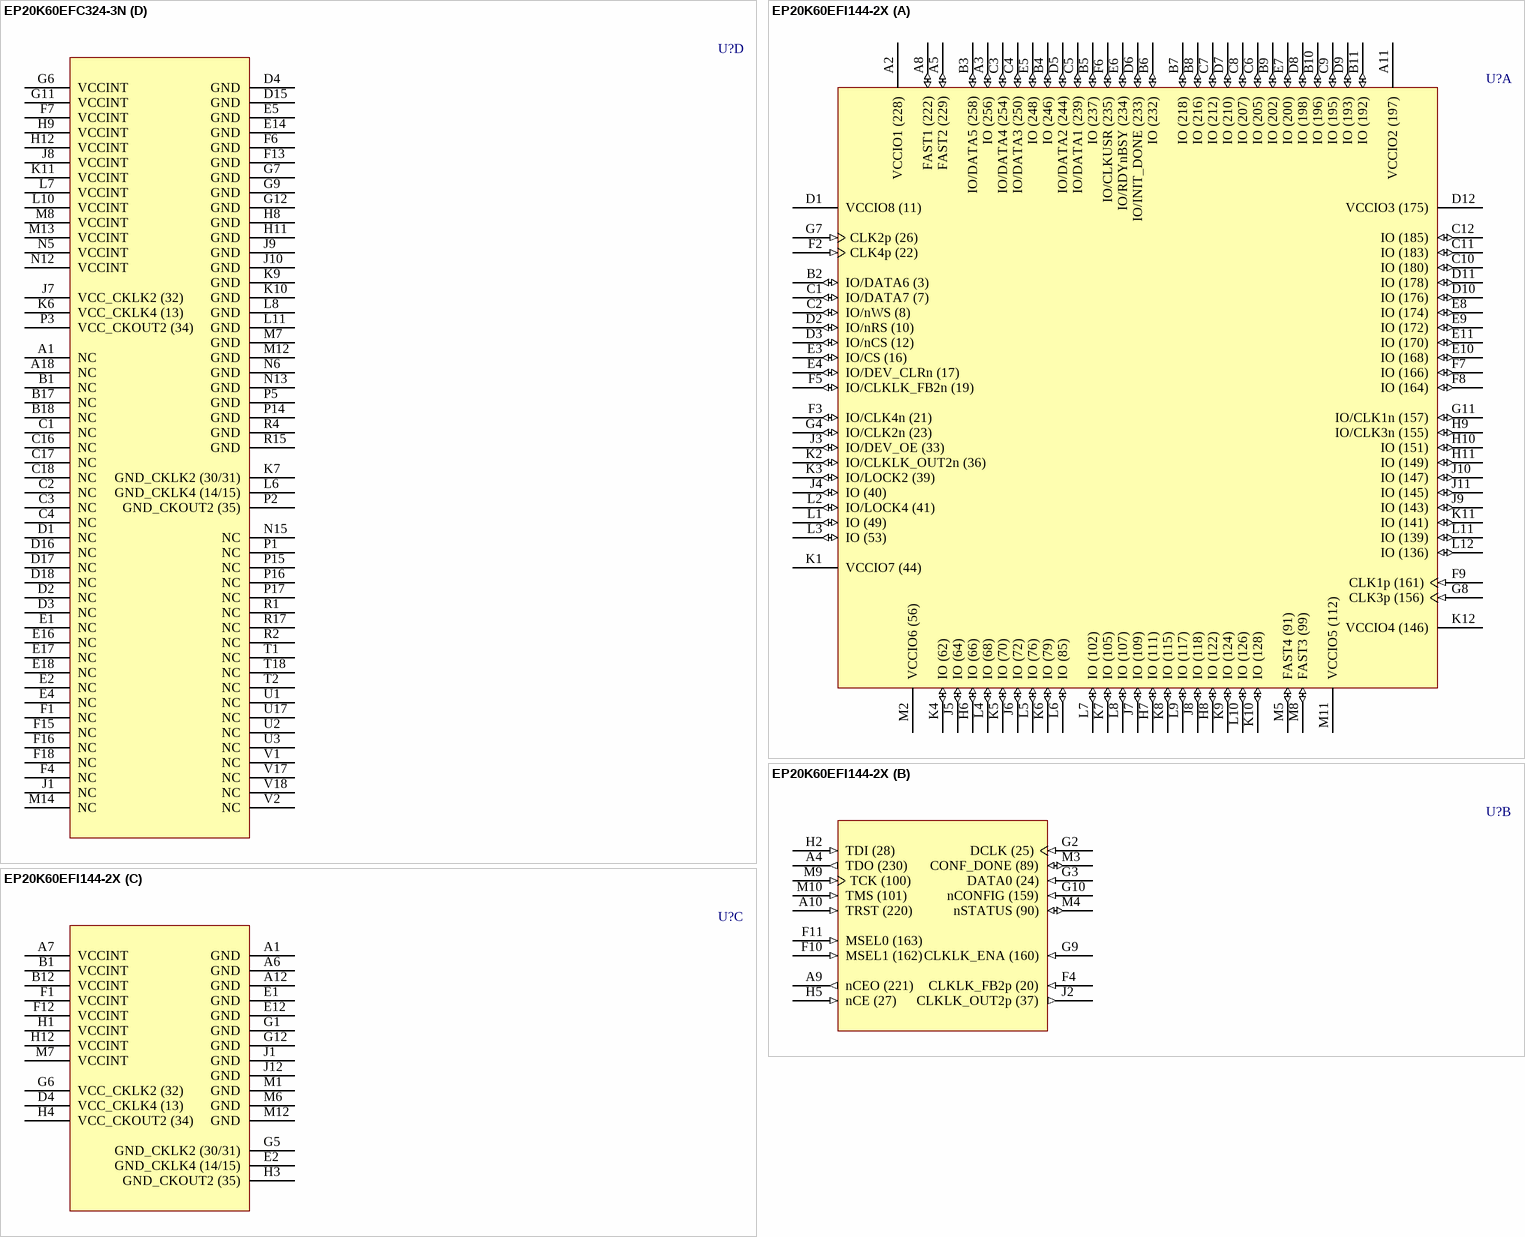
[diagram p41: symbols EP20K60EFC324-3N to EP20K60EFI144-2X]